# Altium footprint library con-vg.PCBLIB: 112 footprints (part 5 of 7)
Each footprint in its own frame and in the unit in brackets; x right, y up, seen from the top. Pads: shape width x height; smd on the part's side, far side on the other; paste and mask are expansions set on the pad; w line width, h text height; cw(c..) or ccw(c..) is an arc to the next point about the centre after c.
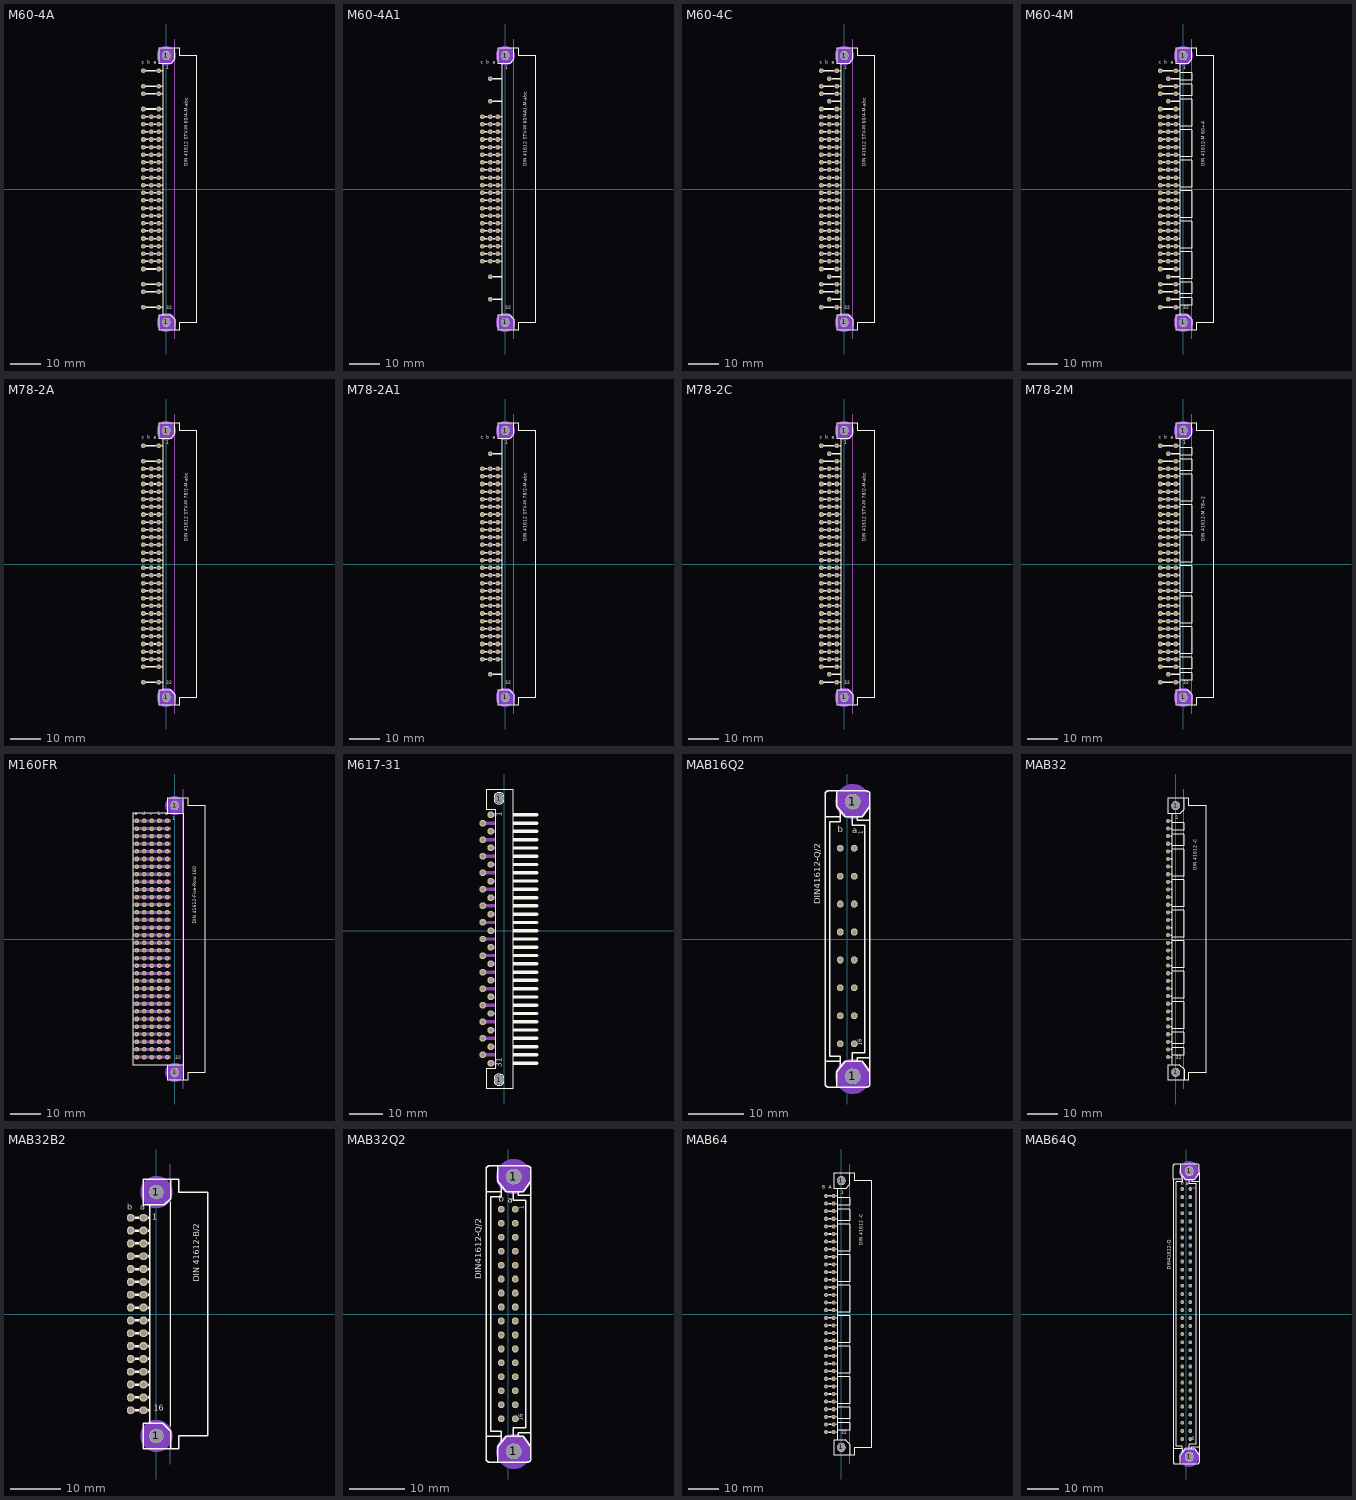
[diagram p4: the footprints below, top view; thin cyan lines are the x and y axes]

## M60-4A [mil]
pads (78):
  round 110 hole 110: 1(0,-1750) 1(0,1750)
  oct 60x60 hole 40: A1(-100,1550) A3(-100,1350) A4(-100,1250) A6(-100,1050) A7(-100,950) A8(-100,850) A9(-100,750) A10(-100,650) A11(-100,550) A12(-100,450) A13(-100,350) A14(-100,250) A15(-100,150) A16(-100,50) A17(-100,-50) A18(-100,-150) A19(-100,-250) A20(-100,-350) A21(-100,-450) A22(-100,-550) A23(-100,-650) A24(-100,-750) A25(-100,-850) A26(-100,-950) A27(-100,-1050) A29(-100,-1250) A30(-100,-1350) A32(-100,-1550) B7(-200,950) B8(-200,850) B9(-200,750) B10(-200,650) B11(-200,550) B12(-200,450) B13(-200,350) B14(-200,250) B15(-200,150) B16(-200,50) B17(-200,-50) B18(-200,-150) B19(-200,-250) B20(-200,-350) B21(-200,-450) B22(-200,-550) B23(-200,-650) B24(-200,-750) B25(-200,-850) B26(-200,-950) C1(-300,1550) C3(-300,1350) C4(-300,1250) C6(-300,1050) C7(-300,950) C8(-300,850) C9(-300,750) C10(-300,650) C11(-300,550) C12(-300,450) C13(-300,350) C14(-300,250) C15(-300,150) C16(-300,50) C17(-300,-50) C18(-300,-150) C19(-300,-250) C20(-300,-350) C21(-300,-450) C22(-300,-550) C23(-300,-650) C24(-300,-750) C25(-300,-850) C26(-300,-950) C27(-300,-1050) C29(-300,-1250) C30(-300,-1350) C32(-300,-1550)
Bottom Layer keep-out:
  circle w70: c0,1750 r90
  circle w70: c0,-1750 r90
Top Overlay:
  circle w10: c0,1750 r50
  circle w10: c0,-1750 r50
  rectangle: -65,1540 -50,1560
  rectangle: -65,1340 -50,1360
  rectangle: -65,1240 -50,1260
  rectangle: -65,1040 -50,1060
  rectangle: -65,940 -50,960
  rectangle: -65,840 -50,860
  rectangle: -65,740 -50,760
  rectangle: -65,640 -50,660
  rectangle: -65,540 -50,560
  rectangle: -65,440 -50,460
  rectangle: -65,340 -50,360
  rectangle: -65,240 -50,260
  rectangle: -65,140 -50,160
  rectangle: -65,40 -50,60
  rectangle: -65,-60 -50,-40
  rectangle: -65,-160 -50,-140
  rectangle: -65,-260 -50,-240
  rectangle: -65,-360 -50,-340
  rectangle: -65,-460 -50,-440
  rectangle: -65,-560 -50,-540
  rectangle: -65,-660 -50,-640
  rectangle: -65,-760 -50,-740
  rectangle: -65,-860 -50,-840
  rectangle: -65,-960 -50,-940
  rectangle: -65,-1060 -50,-1040
  rectangle: -65,-1260 -50,-1240
  rectangle: -65,-1360 -50,-1340
  rectangle: -65,-1560 -50,-1540
  rectangle: -235,1540 -165,1560
  rectangle: -165,1540 -135,1560
  rectangle: -265,1540 -235,1560
  rectangle: -165,1340 -135,1360
  rectangle: -235,1340 -165,1360
  rectangle: -265,1340 -235,1360
  rectangle: -165,940 -135,960
  rectangle: -265,940 -235,960
  rectangle: -265,840 -235,860
  rectangle: -165,840 -135,860
  rectangle: -165,740 -135,760
  rectangle: -265,740 -235,760
  rectangle: -265,640 -235,660
  rectangle: -165,640 -135,660
  rectangle: -165,540 -135,560
  rectangle: -265,540 -235,560
  rectangle: -265,440 -235,460
  rectangle: -165,440 -135,460
  rectangle: -165,340 -135,360
  rectangle: -265,340 -235,360
  rectangle: -265,240 -235,260
  rectangle: -165,240 -135,260
  rectangle: -165,140 -135,160
  rectangle: -265,140 -235,160
  rectangle: -265,40 -235,60
  rectangle: -165,40 -135,60
  rectangle: -165,-60 -135,-40
  rectangle: -265,-60 -235,-40
  rectangle: -265,-160 -235,-140
  rectangle: -165,-160 -135,-140
  rectangle: -165,-260 -135,-240
  rectangle: -265,-260 -235,-240
  rectangle: -265,-360 -235,-340
  rectangle: -165,-360 -135,-340
  rectangle: -165,-460 -135,-440
  rectangle: -265,-460 -235,-440
  rectangle: -265,-560 -235,-540
  rectangle: -165,-560 -135,-540
  rectangle: -165,-660 -135,-640
  rectangle: -265,-660 -235,-640
  rectangle: -265,-760 -235,-740
  rectangle: -165,-760 -135,-740
  rectangle: -165,-860 -135,-840
  rectangle: -265,-860 -235,-840
  rectangle: -265,-960 -235,-940
  rectangle: -165,-960 -135,-940
  rectangle: -165,-1060 -135,-1040
  rectangle: -265,-1060 -235,-1040
  rectangle: -165,-1260 -135,-1240
  rectangle: -265,-1260 -235,-1240
  rectangle: -265,-1360 -235,-1340
  rectangle: -235,-1360 -165,-1340
  rectangle: -165,-1360 -135,-1340
  rectangle: -265,-1560 -235,-1540
  rectangle: -235,-1560 -165,-1540
  rectangle: -165,-1560 -135,-1540
  rectangle: -235,1240 -165,1260
  rectangle: -265,1240 -235,1260
  rectangle: -165,1240 -135,1260
  rectangle: -265,1040 -235,1060
  rectangle: -235,1040 -165,1060
  rectangle: -165,1040 -135,1060
  rectangle: -235,-1260 -165,-1240
  rectangle: -235,-1060 -165,-1040
  lines w10: -50,-1650 -100,-1650 -100,-1850 113,-1850 ; -50,-1650 50,-1650 113,-1713 113,-1850 ; -50,-1650 -50,1650 ; -50,1650 -100,1650 -100,1850 113,1850 ; -50,1650 63,1650 113,1700 113,1850 ; 113,-1850 175,-1850 175,-1750 400,-1750 400,1750 175,1750 175,1850 113,1850
  text "1" at 0,1550 h77.5
  text "32" at 0,-1600 h77.5
  text "c" at -325,1625 h77.5
  text "b" at -250,1625 h77.5
  text "a" at -165,1625 h77.5
  text "DIN 41612 STV-M 60/4-M-abc" at 300,300 h77.5
Mechanical 1:
  lines w0: 110,-1969 110,1969
Mechanical 16:
  rectangle: -135,1540 -65,1560
  rectangle: -310,1540 -265,1560
  rectangle: -310,1340 -265,1360
  rectangle: -135,1340 -65,1360
  rectangle: -135,1240 -65,1260
  rectangle: -310,1240 -265,1260
  rectangle: -135,1040 -65,1060
  rectangle: -310,1040 -265,1060
  rectangle: -310,940 -265,960
  rectangle: -135,940 -65,960
  rectangle: -135,840 -65,860
  rectangle: -310,840 -265,860
  rectangle: -135,740 -65,760
  rectangle: -310,740 -265,760
  rectangle: -135,640 -65,660
  rectangle: -310,640 -265,660
  rectangle: -310,540 -265,560
  rectangle: -135,540 -65,560
  rectangle: -135,440 -65,460
  rectangle: -135,340 -65,360
  rectangle: -310,440 -265,460
  rectangle: -310,340 -265,360
  rectangle: -310,240 -265,260
  rectangle: -135,240 -65,260
  rectangle: -135,140 -65,160
  rectangle: -310,140 -265,160
  rectangle: -310,40 -265,60
  rectangle: -135,40 -65,60
  rectangle: -135,-60 -65,-40
  rectangle: -310,-60 -265,-40
  rectangle: -135,-160 -65,-140
  rectangle: -310,-160 -265,-140
  rectangle: -135,-260 -65,-240
  rectangle: -310,-260 -265,-240
  rectangle: -310,-360 -265,-340
  rectangle: -135,-360 -65,-340
  rectangle: -135,-460 -65,-440
  rectangle: -310,-460 -265,-440
  rectangle: -135,-660 -65,-640
  rectangle: -310,-660 -265,-640
  rectangle: -135,-560 -65,-540
  rectangle: -310,-560 -265,-540
  rectangle: -135,-760 -65,-740
  rectangle: -310,-760 -265,-740
  rectangle: -310,-860 -265,-840
  rectangle: -135,-860 -65,-840
  rectangle: -135,-960 -65,-940
  rectangle: -310,-960 -265,-940
  rectangle: -135,-1060 -65,-1040
  rectangle: -310,-1060 -265,-1040
  rectangle: -310,-1260 -265,-1240
  rectangle: -135,-1260 -65,-1240
  rectangle: -135,-1360 -65,-1340
  rectangle: -310,-1360 -265,-1340
  rectangle: -135,-1560 -65,-1540
  rectangle: -310,-1560 -265,-1540
  rectangle: -235,940 -165,960
  rectangle: -235,840 -165,860
  rectangle: -235,740 -165,760
  rectangle: -235,640 -165,660
  rectangle: -235,540 -165,560
  rectangle: -235,440 -165,460
  rectangle: -235,340 -165,360
  rectangle: -235,240 -165,260
  rectangle: -235,140 -165,160
  rectangle: -235,40 -165,60
  rectangle: -235,-60 -165,-40
  rectangle: -235,-160 -165,-140
  rectangle: -235,-260 -165,-240
  rectangle: -235,-360 -165,-340
  rectangle: -235,-460 -165,-440
  rectangle: -235,-560 -165,-540
  rectangle: -235,-660 -165,-640
  rectangle: -235,-760 -165,-740
  rectangle: -235,-860 -165,-840
  rectangle: -235,-960 -165,-940
Via Holes:
  circle w70: c0,1750 r90
  circle w70: c0,-1750 r90

## M60-4A1 [mil]
pads (66):
  round 110 hole 110: 1(0,-1750) 1(0,1750)
  oct 60x60 hole 40: A7(-100,950) A8(-100,850) A9(-100,750) A10(-100,650) A11(-100,550) A12(-100,450) A13(-100,350) A14(-100,250) A15(-100,150) A16(-100,50) A17(-100,-50) A18(-100,-150) A19(-100,-250) A20(-100,-350) A21(-100,-450) A22(-100,-550) A23(-100,-650) A24(-100,-750) A25(-100,-850) A26(-100,-950) B2(-200,1450) B5(-200,1150) B7(-200,950) B8(-200,850) B9(-200,750) B10(-200,650) B11(-200,550) B12(-200,450) B13(-200,350) B14(-200,250) B15(-200,150) B16(-200,50) B17(-200,-50) B18(-200,-150) B19(-200,-250) B20(-200,-350) B21(-200,-450) B22(-200,-550) B23(-200,-650) B24(-200,-750) B25(-200,-850) B26(-200,-950) B28(-200,-1150) B31(-200,-1450) C7(-300,950) C8(-300,850) C9(-300,750) C10(-300,650) C11(-300,550) C12(-300,450) C13(-300,350) C14(-300,250) C15(-300,150) C16(-300,50) C17(-300,-50) C18(-300,-150) C19(-300,-250) C20(-300,-350) C21(-300,-450) C22(-300,-550) C23(-300,-650) C24(-300,-750) C25(-300,-850) C26(-300,-950)
Bottom Layer keep-out:
  circle w70: c0,1750 r90
  circle w70: c0,-1750 r90
Top Overlay:
  circle w10: c0,1750 r50
  circle w10: c0,-1750 r50
  rectangle: -65,1440 -50,1460
  rectangle: -135,1440 -65,1460
  rectangle: -65,1140 -50,1160
  rectangle: -65,940 -50,960
  rectangle: -65,840 -50,860
  rectangle: -65,740 -50,760
  rectangle: -65,640 -50,660
  rectangle: -65,540 -50,560
  rectangle: -65,440 -50,460
  rectangle: -65,340 -50,360
  rectangle: -65,240 -50,260
  rectangle: -65,140 -50,160
  rectangle: -65,40 -50,60
  rectangle: -65,-60 -50,-40
  rectangle: -65,-160 -50,-140
  rectangle: -65,-260 -50,-240
  rectangle: -65,-360 -50,-340
  rectangle: -65,-460 -50,-440
  rectangle: -65,-560 -50,-540
  rectangle: -65,-660 -50,-640
  rectangle: -65,-760 -50,-740
  rectangle: -65,-860 -50,-840
  rectangle: -65,-960 -50,-940
  rectangle: -65,-1160 -50,-1140
  rectangle: -135,-1460 -65,-1440
  rectangle: -65,-1460 -50,-1440
  rectangle: -165,1440 -135,1460
  rectangle: -165,1140 -135,1160
  rectangle: -165,940 -135,960
  rectangle: -265,940 -235,960
  rectangle: -265,840 -235,860
  rectangle: -165,840 -135,860
  rectangle: -165,740 -135,760
  rectangle: -265,740 -235,760
  rectangle: -265,640 -235,660
  rectangle: -165,640 -135,660
  rectangle: -165,540 -135,560
  rectangle: -265,540 -235,560
  rectangle: -265,440 -235,460
  rectangle: -165,440 -135,460
  rectangle: -165,340 -135,360
  rectangle: -265,340 -235,360
  rectangle: -265,240 -235,260
  rectangle: -165,240 -135,260
  rectangle: -165,140 -135,160
  rectangle: -265,140 -235,160
  rectangle: -265,40 -235,60
  rectangle: -165,40 -135,60
  rectangle: -165,-60 -135,-40
  rectangle: -265,-60 -235,-40
  rectangle: -265,-160 -235,-140
  rectangle: -165,-160 -135,-140
  rectangle: -165,-260 -135,-240
  rectangle: -265,-260 -235,-240
  rectangle: -265,-360 -235,-340
  rectangle: -165,-360 -135,-340
  rectangle: -165,-460 -135,-440
  rectangle: -265,-460 -235,-440
  rectangle: -265,-560 -235,-540
  rectangle: -165,-560 -135,-540
  rectangle: -165,-660 -135,-640
  rectangle: -265,-660 -235,-640
  rectangle: -265,-760 -235,-740
  rectangle: -165,-760 -135,-740
  rectangle: -165,-860 -135,-840
  rectangle: -265,-860 -235,-840
  rectangle: -265,-960 -235,-940
  rectangle: -165,-960 -135,-940
  rectangle: -165,-1160 -135,-1140
  rectangle: -165,-1460 -135,-1440
  rectangle: -135,-1160 -65,-1140
  rectangle: -135,1140 -65,1160
  lines w10: -50,-1650 -100,-1650 -100,-1850 113,-1850 ; -50,-1650 50,-1650 113,-1713 113,-1850 ; -50,-1650 -50,1650 ; -50,1650 -100,1650 -100,1850 113,1850 ; -50,1650 63,1650 113,1700 113,1850 ; 113,-1850 175,-1850 175,-1750 400,-1750 400,1750 175,1750 175,1850 113,1850
  text "1" at 0,1550 h77.5
  text "32" at 0,-1600 h77.5
  text "c" at -325,1625 h77.5
  text "b" at -250,1625 h77.5
  text "a" at -165,1625 h77.5
  text "DIN 41612 STV-M 60/4A1-M-abc" at 300,300 h77.5
Mechanical 1:
  lines w0: 110,-1969 110,1969
Mechanical 16:
  rectangle: -310,940 -265,960
  rectangle: -135,940 -65,960
  rectangle: -135,840 -65,860
  rectangle: -310,840 -265,860
  rectangle: -135,740 -65,760
  rectangle: -310,740 -265,760
  rectangle: -135,640 -65,660
  rectangle: -310,640 -265,660
  rectangle: -310,540 -265,560
  rectangle: -135,540 -65,560
  rectangle: -135,440 -65,460
  rectangle: -135,340 -65,360
  rectangle: -310,440 -265,460
  rectangle: -310,340 -265,360
  rectangle: -310,240 -265,260
  rectangle: -135,240 -65,260
  rectangle: -135,140 -65,160
  rectangle: -310,140 -265,160
  rectangle: -310,40 -265,60
  rectangle: -135,40 -65,60
  rectangle: -135,-60 -65,-40
  rectangle: -310,-60 -265,-40
  rectangle: -135,-160 -65,-140
  rectangle: -310,-160 -265,-140
  rectangle: -135,-260 -65,-240
  rectangle: -310,-260 -265,-240
  rectangle: -310,-360 -265,-340
  rectangle: -135,-360 -65,-340
  rectangle: -135,-460 -65,-440
  rectangle: -310,-460 -265,-440
  rectangle: -135,-660 -65,-640
  rectangle: -310,-660 -265,-640
  rectangle: -135,-560 -65,-540
  rectangle: -310,-560 -265,-540
  rectangle: -135,-760 -65,-740
  rectangle: -310,-760 -265,-740
  rectangle: -310,-860 -265,-840
  rectangle: -135,-860 -65,-840
  rectangle: -135,-960 -65,-940
  rectangle: -310,-960 -265,-940
  rectangle: -235,940 -165,960
  rectangle: -235,840 -165,860
  rectangle: -235,740 -165,760
  rectangle: -235,640 -165,660
  rectangle: -235,540 -165,560
  rectangle: -235,440 -165,460
  rectangle: -235,340 -165,360
  rectangle: -235,240 -165,260
  rectangle: -235,140 -165,160
  rectangle: -235,40 -165,60
  rectangle: -235,-60 -165,-40
  rectangle: -235,-160 -165,-140
  rectangle: -235,-260 -165,-240
  rectangle: -235,-360 -165,-340
  rectangle: -235,-460 -165,-440
  rectangle: -235,-560 -165,-540
  rectangle: -235,-660 -165,-640
  rectangle: -235,-760 -165,-740
  rectangle: -235,-860 -165,-840
  rectangle: -235,-960 -165,-940
  rectangle: -210,1140 -165,1160
  rectangle: -210,1440 -165,1460
  rectangle: -210,-1160 -165,-1140
  rectangle: -210,-1460 -165,-1440
Via Holes:
  circle w70: c0,1750 r90
  circle w70: c0,-1750 r90

## M60-4C [mil]
pads (82):
  round 110 hole 110: 1(0,-1750) 1(0,1750)
  oct 60x60 hole 40: A1(-100,1550) A3(-100,1350) A4(-100,1250) A6(-100,1050) A7(-100,950) A8(-100,850) A9(-100,750) A10(-100,650) A11(-100,550) A12(-100,450) A13(-100,350) A14(-100,250) A15(-100,150) A16(-100,50) A17(-100,-50) A18(-100,-150) A19(-100,-250) A20(-100,-350) A21(-100,-450) A22(-100,-550) A23(-100,-650) A24(-100,-750) A25(-100,-850) A26(-100,-950) A27(-100,-1050) A29(-100,-1250) A30(-100,-1350) A32(-100,-1550) B2(-200,1450) B5(-200,1150) B7(-200,950) B8(-200,850) B9(-200,750) B10(-200,650) B11(-200,550) B12(-200,450) B13(-200,350) B14(-200,250) B15(-200,150) B16(-200,50) B17(-200,-50) B18(-200,-150) B19(-200,-250) B20(-200,-350) B21(-200,-450) B22(-200,-550) B23(-200,-650) B24(-200,-750) B25(-200,-850) B26(-200,-950) B28(-200,-1150) B31(-200,-1450) C1(-300,1550) C3(-300,1350) C4(-300,1250) C6(-300,1050) C7(-300,950) C8(-300,850) C9(-300,750) C10(-300,650) C11(-300,550) C12(-300,450) C13(-300,350) C14(-300,250) C15(-300,150) C16(-300,50) C17(-300,-50) C18(-300,-150) C19(-300,-250) C20(-300,-350) C21(-300,-450) C22(-300,-550) C23(-300,-650) C24(-300,-750) C25(-300,-850) C26(-300,-950) C27(-300,-1050) C29(-300,-1250) C30(-300,-1350) C32(-300,-1550)
Bottom Layer keep-out:
  circle w70: c0,1750 r90
  circle w70: c0,-1750 r90
Top Overlay:
  circle w10: c0,1750 r50
  circle w10: c0,-1750 r50
  rectangle: -65,1540 -50,1560
  rectangle: -65,1440 -50,1460
  rectangle: -135,1440 -65,1460
  rectangle: -65,1340 -50,1360
  rectangle: -65,1240 -50,1260
  rectangle: -65,1140 -50,1160
  rectangle: -65,1040 -50,1060
  rectangle: -65,940 -50,960
  rectangle: -65,840 -50,860
  rectangle: -65,740 -50,760
  rectangle: -65,640 -50,660
  rectangle: -65,540 -50,560
  rectangle: -65,440 -50,460
  rectangle: -65,340 -50,360
  rectangle: -65,240 -50,260
  rectangle: -65,140 -50,160
  rectangle: -65,40 -50,60
  rectangle: -65,-60 -50,-40
  rectangle: -65,-160 -50,-140
  rectangle: -65,-260 -50,-240
  rectangle: -65,-360 -50,-340
  rectangle: -65,-460 -50,-440
  rectangle: -65,-560 -50,-540
  rectangle: -65,-660 -50,-640
  rectangle: -65,-760 -50,-740
  rectangle: -65,-860 -50,-840
  rectangle: -65,-960 -50,-940
  rectangle: -65,-1060 -50,-1040
  rectangle: -65,-1160 -50,-1140
  rectangle: -65,-1260 -50,-1240
  rectangle: -65,-1360 -50,-1340
  rectangle: -135,-1460 -65,-1440
  rectangle: -65,-1460 -50,-1440
  rectangle: -65,-1560 -50,-1540
  rectangle: -235,1540 -165,1560
  rectangle: -165,1540 -135,1560
  rectangle: -265,1540 -235,1560
  rectangle: -165,1440 -135,1460
  rectangle: -165,1340 -135,1360
  rectangle: -235,1340 -165,1360
  rectangle: -265,1340 -235,1360
  rectangle: -165,1140 -135,1160
  rectangle: -165,940 -135,960
  rectangle: -265,940 -235,960
  rectangle: -265,840 -235,860
  rectangle: -165,840 -135,860
  rectangle: -165,740 -135,760
  rectangle: -265,740 -235,760
  rectangle: -265,640 -235,660
  rectangle: -165,640 -135,660
  rectangle: -165,540 -135,560
  rectangle: -265,540 -235,560
  rectangle: -265,440 -235,460
  rectangle: -165,440 -135,460
  rectangle: -165,340 -135,360
  rectangle: -265,340 -235,360
  rectangle: -265,240 -235,260
  rectangle: -165,240 -135,260
  rectangle: -165,140 -135,160
  rectangle: -265,140 -235,160
  rectangle: -265,40 -235,60
  rectangle: -165,40 -135,60
  rectangle: -165,-60 -135,-40
  rectangle: -265,-60 -235,-40
  rectangle: -265,-160 -235,-140
  rectangle: -165,-160 -135,-140
  rectangle: -165,-260 -135,-240
  rectangle: -265,-260 -235,-240
  rectangle: -265,-360 -235,-340
  rectangle: -165,-360 -135,-340
  rectangle: -165,-460 -135,-440
  rectangle: -265,-460 -235,-440
  rectangle: -265,-560 -235,-540
  rectangle: -165,-560 -135,-540
  rectangle: -165,-660 -135,-640
  rectangle: -265,-660 -235,-640
  rectangle: -265,-760 -235,-740
  rectangle: -165,-760 -135,-740
  rectangle: -165,-860 -135,-840
  rectangle: -265,-860 -235,-840
  rectangle: -265,-960 -235,-940
  rectangle: -165,-960 -135,-940
  rectangle: -165,-1060 -135,-1040
  rectangle: -265,-1060 -235,-1040
  rectangle: -165,-1160 -135,-1140
  rectangle: -165,-1260 -135,-1240
  rectangle: -265,-1260 -235,-1240
  rectangle: -265,-1360 -235,-1340
  rectangle: -235,-1360 -165,-1340
  rectangle: -165,-1360 -135,-1340
  rectangle: -165,-1460 -135,-1440
  rectangle: -265,-1560 -235,-1540
  rectangle: -235,-1560 -165,-1540
  rectangle: -165,-1560 -135,-1540
  rectangle: -235,1240 -165,1260
  rectangle: -265,1240 -235,1260
  rectangle: -165,1240 -135,1260
  rectangle: -265,1040 -235,1060
  rectangle: -235,1040 -165,1060
  rectangle: -165,1040 -135,1060
  rectangle: -235,-1260 -165,-1240
  rectangle: -235,-1060 -165,-1040
  rectangle: -135,-1160 -65,-1140
  rectangle: -135,1140 -65,1160
  lines w10: -50,-1650 -100,-1650 -100,-1850 113,-1850 ; -50,-1650 50,-1650 113,-1713 113,-1850 ; -50,-1650 -50,1650 ; -50,1650 -100,1650 -100,1850 113,1850 ; -50,1650 63,1650 113,1700 113,1850 ; 113,-1850 175,-1850 175,-1750 400,-1750 400,1750 175,1750 175,1850 113,1850
  text "1" at 0,1550 h77.5
  text "32" at 0,-1600 h77.5
  text "c" at -325,1625 h77.5
  text "b" at -250,1625 h77.5
  text "a" at -165,1625 h77.5
  text "DIN 41612 STV-M 60/4-M-abc" at 300,300 h77.5
Mechanical 1:
  lines w0: 110,-1969 110,1969
Mechanical 16:
  rectangle: -135,1540 -65,1560
  rectangle: -310,1540 -265,1560
  rectangle: -310,1340 -265,1360
  rectangle: -135,1340 -65,1360
  rectangle: -135,1240 -65,1260
  rectangle: -310,1240 -265,1260
  rectangle: -135,1040 -65,1060
  rectangle: -310,1040 -265,1060
  rectangle: -310,940 -265,960
  rectangle: -135,940 -65,960
  rectangle: -135,840 -65,860
  rectangle: -310,840 -265,860
  rectangle: -135,740 -65,760
  rectangle: -310,740 -265,760
  rectangle: -135,640 -65,660
  rectangle: -310,640 -265,660
  rectangle: -310,540 -265,560
  rectangle: -135,540 -65,560
  rectangle: -135,440 -65,460
  rectangle: -135,340 -65,360
  rectangle: -310,440 -265,460
  rectangle: -310,340 -265,360
  rectangle: -310,240 -265,260
  rectangle: -135,240 -65,260
  rectangle: -135,140 -65,160
  rectangle: -310,140 -265,160
  rectangle: -310,40 -265,60
  rectangle: -135,40 -65,60
  rectangle: -135,-60 -65,-40
  rectangle: -310,-60 -265,-40
  rectangle: -135,-160 -65,-140
  rectangle: -310,-160 -265,-140
  rectangle: -135,-260 -65,-240
  rectangle: -310,-260 -265,-240
  rectangle: -310,-360 -265,-340
  rectangle: -135,-360 -65,-340
  rectangle: -135,-460 -65,-440
  rectangle: -310,-460 -265,-440
  rectangle: -135,-660 -65,-640
  rectangle: -310,-660 -265,-640
  rectangle: -135,-560 -65,-540
  rectangle: -310,-560 -265,-540
  rectangle: -135,-760 -65,-740
  rectangle: -310,-760 -265,-740
  rectangle: -310,-860 -265,-840
  rectangle: -135,-860 -65,-840
  rectangle: -135,-960 -65,-940
  rectangle: -310,-960 -265,-940
  rectangle: -135,-1060 -65,-1040
  rectangle: -310,-1060 -265,-1040
  rectangle: -310,-1260 -265,-1240
  rectangle: -135,-1260 -65,-1240
  rectangle: -135,-1360 -65,-1340
  rectangle: -310,-1360 -265,-1340
  rectangle: -135,-1560 -65,-1540
  rectangle: -310,-1560 -265,-1540
  rectangle: -235,940 -165,960
  rectangle: -235,840 -165,860
  rectangle: -235,740 -165,760
  rectangle: -235,640 -165,660
  rectangle: -235,540 -165,560
  rectangle: -235,440 -165,460
  rectangle: -235,340 -165,360
  rectangle: -235,240 -165,260
  rectangle: -235,140 -165,160
  rectangle: -235,40 -165,60
  rectangle: -235,-60 -165,-40
  rectangle: -235,-160 -165,-140
  rectangle: -235,-260 -165,-240
  rectangle: -235,-360 -165,-340
  rectangle: -235,-460 -165,-440
  rectangle: -235,-560 -165,-540
  rectangle: -235,-660 -165,-640
  rectangle: -235,-760 -165,-740
  rectangle: -235,-860 -165,-840
  rectangle: -235,-960 -165,-940
  rectangle: -210,1140 -165,1160
  rectangle: -210,1440 -165,1460
  rectangle: -210,-1160 -165,-1140
  rectangle: -210,-1460 -165,-1440
Via Holes:
  circle w70: c0,1750 r90
  circle w70: c0,-1750 r90

## M60-4M [mil]
pads (82):
  round 110 hole 110: 1(0,-1750) 1(0,1750)
  oct 60x60 hole 40: A1(-100,1550) A3(-100,1350) A4(-100,1250) A6(-100,1050) A7(-100,950) A8(-100,850) A9(-100,750) A10(-100,650) A11(-100,550) A12(-100,450) A13(-100,350) A14(-100,250) A15(-100,150) A16(-100,50) A17(-100,-50) A18(-100,-150) A19(-100,-250) A20(-100,-350) A21(-100,-450) A22(-100,-550) A23(-100,-650) A24(-100,-750) A25(-100,-850) A26(-100,-950) A27(-100,-1050) A29(-100,-1250) A30(-100,-1350) A32(-100,-1550) B2(-200,1450) B5(-200,1150) B7(-200,950) B8(-200,850) B9(-200,750) B10(-200,650) B11(-200,550) B12(-200,450) B13(-200,350) B14(-200,250) B15(-200,150) B16(-200,50) B17(-200,-50) B18(-200,-150) B19(-200,-250) B20(-200,-350) B21(-200,-450) B22(-200,-550) B23(-200,-650) B24(-200,-750) B25(-200,-850) B26(-200,-950) B28(-200,-1150) B31(-200,-1450) C1(-300,1550) C3(-300,1350) C4(-300,1250) C6(-300,1050) C7(-300,950) C8(-300,850) C9(-300,750) C10(-300,650) C11(-300,550) C12(-300,450) C13(-300,350) C14(-300,250) C15(-300,150) C16(-300,50) C17(-300,-50) C18(-300,-150) C19(-300,-250) C20(-300,-350) C21(-300,-450) C22(-300,-550) C23(-300,-650) C24(-300,-750) C25(-300,-850) C26(-300,-950) C27(-300,-1050) C29(-300,-1250) C30(-300,-1350) C32(-300,-1550)
Bottom Layer keep-out:
  circle w70: c0,1750 r90
  circle w70: c0,-1750 r90
Top Overlay:
  drawing of 176 lines, arcs and shapes, not listed
  text "1" at 0,1550 h77.5
  text "32" at 0,-1600 h77.5
  text "DIN 41612-M 60+4" at 300,300 h77.5
  text "c" at -325,1625 h77.5
  text "b" at -250,1625 h77.5
  text "a" at -165,1625 h77.5
Mechanical 1:
  lines w0: 110,-1969 110,1969
Mechanical 16:
  rectangle: -135,1540 -65,1560
  rectangle: -310,1540 -265,1560
  rectangle: -310,1340 -265,1360
  rectangle: -135,1340 -65,1360
  rectangle: -135,1240 -65,1260
  rectangle: -310,1240 -265,1260
  rectangle: -135,1040 -65,1060
  rectangle: -310,1040 -265,1060
  rectangle: -310,940 -265,960
  rectangle: -135,940 -65,960
  rectangle: -135,840 -65,860
  rectangle: -310,840 -265,860
  rectangle: -135,740 -65,760
  rectangle: -310,740 -265,760
  rectangle: -135,640 -65,660
  rectangle: -310,640 -265,660
  rectangle: -310,540 -265,560
  rectangle: -135,540 -65,560
  rectangle: -135,440 -65,460
  rectangle: -135,340 -65,360
  rectangle: -310,440 -265,460
  rectangle: -310,340 -265,360
  rectangle: -310,240 -265,260
  rectangle: -135,240 -65,260
  rectangle: -135,140 -65,160
  rectangle: -310,140 -265,160
  rectangle: -310,40 -265,60
  rectangle: -135,40 -65,60
  rectangle: -135,-60 -65,-40
  rectangle: -310,-60 -265,-40
  rectangle: -135,-160 -65,-140
  rectangle: -310,-160 -265,-140
  rectangle: -135,-260 -65,-240
  rectangle: -310,-260 -265,-240
  rectangle: -310,-360 -265,-340
  rectangle: -135,-360 -65,-340
  rectangle: -135,-460 -65,-440
  rectangle: -310,-460 -265,-440
  rectangle: -135,-660 -65,-640
  rectangle: -310,-660 -265,-640
  rectangle: -135,-560 -65,-540
  rectangle: -310,-560 -265,-540
  rectangle: -135,-760 -65,-740
  rectangle: -310,-760 -265,-740
  rectangle: -310,-860 -265,-840
  rectangle: -135,-860 -65,-840
  rectangle: -135,-960 -65,-940
  rectangle: -310,-960 -265,-940
  rectangle: -135,-1060 -65,-1040
  rectangle: -310,-1060 -265,-1040
  rectangle: -310,-1260 -265,-1240
  rectangle: -135,-1260 -65,-1240
  rectangle: -135,-1360 -65,-1340
  rectangle: -310,-1360 -265,-1340
  rectangle: -135,-1560 -65,-1540
  rectangle: -310,-1560 -265,-1540
  rectangle: -235,940 -165,960
  rectangle: -235,840 -165,860
  rectangle: -235,740 -165,760
  rectangle: -235,640 -165,660
  rectangle: -235,540 -165,560
  rectangle: -235,440 -165,460
  rectangle: -235,340 -165,360
  rectangle: -235,240 -165,260
  rectangle: -235,140 -165,160
  rectangle: -235,40 -165,60
  rectangle: -235,-60 -165,-40
  rectangle: -235,-160 -165,-140
  rectangle: -235,-260 -165,-240
  rectangle: -235,-360 -165,-340
  rectangle: -235,-460 -165,-440
  rectangle: -235,-560 -165,-540
  rectangle: -235,-660 -165,-640
  rectangle: -235,-760 -165,-740
  rectangle: -235,-860 -165,-840
  rectangle: -235,-960 -165,-940
  rectangle: -210,1140 -165,1160
  rectangle: -210,1440 -165,1460
  rectangle: -210,-1160 -165,-1140
  rectangle: -210,-1460 -165,-1440
Via Holes:
  circle w70: c0,1750 r90
  circle w70: c0,-1750 r90

## M78-2A [mil]
pads (88):
  round 110 hole 110: 1(0,-1750) 1(0,1750)
  oct 60x60 hole 40: A1(-100,1550) A3(-100,1350) A4(-100,1250) A5(-100,1150) A6(-100,1050) A7(-100,950) A8(-100,850) A9(-100,750) A10(-100,650) A11(-100,550) A12(-100,450) A13(-100,350) A14(-100,250) A15(-100,150) A16(-100,50) A17(-100,-50) A18(-100,-150) A19(-100,-250) A20(-100,-350) A21(-100,-450) A22(-100,-550) A23(-100,-650) A24(-100,-750) A25(-100,-850) A26(-100,-950) A27(-100,-1050) A28(-100,-1150) A29(-100,-1250) A30(-100,-1350) A32(-100,-1550) B4(-200,1250) B5(-200,1150) B6(-200,1050) B7(-200,950) B8(-200,850) B9(-200,750) B10(-200,650) B11(-200,550) B12(-200,450) B13(-200,350) B14(-200,250) B15(-200,150) B16(-200,50) B17(-200,-50) B18(-200,-150) B19(-200,-250) B20(-200,-350) B21(-200,-450) B22(-200,-550) B23(-200,-650) B24(-200,-750) B25(-200,-850) B26(-200,-950) B27(-200,-1050) B28(-200,-1150) B29(-200,-1250) C1(-300,1550) C3(-300,1350) C4(-300,1250) C5(-300,1150) C6(-300,1050) C7(-300,950) C8(-300,850) C9(-300,750) C10(-300,650) C11(-300,550) C12(-300,450) C13(-300,350) C14(-300,250) C15(-300,150) C16(-300,50) C17(-300,-50) C18(-300,-150) C19(-300,-250) C20(-300,-350) C21(-300,-450) C22(-300,-550) C23(-300,-650) C24(-300,-750) C25(-300,-850) C26(-300,-950) C27(-300,-1050) C28(-300,-1150) C29(-300,-1250) C30(-300,-1350) C32(-300,-1550)
Bottom Layer keep-out:
  circle w70: c0,1750 r90
  circle w70: c0,-1750 r90
Top Overlay:
  circle w10: c0,1750 r50
  circle w10: c0,-1750 r50
  rectangle: -65,1540 -50,1560
  rectangle: -65,1340 -50,1360
  rectangle: -65,1240 -50,1260
  rectangle: -65,1140 -50,1160
  rectangle: -65,1040 -50,1060
  rectangle: -65,940 -50,960
  rectangle: -65,840 -50,860
  rectangle: -65,740 -50,760
  rectangle: -65,640 -50,660
  rectangle: -65,540 -50,560
  rectangle: -65,440 -50,460
  rectangle: -65,340 -50,360
  rectangle: -65,240 -50,260
  rectangle: -65,140 -50,160
  rectangle: -65,40 -50,60
  rectangle: -65,-60 -50,-40
  rectangle: -65,-160 -50,-140
  rectangle: -65,-260 -50,-240
  rectangle: -65,-360 -50,-340
  rectangle: -65,-460 -50,-440
  rectangle: -65,-560 -50,-540
  rectangle: -65,-660 -50,-640
  rectangle: -65,-760 -50,-740
  rectangle: -65,-860 -50,-840
  rectangle: -65,-960 -50,-940
  rectangle: -65,-1060 -50,-1040
  rectangle: -65,-1160 -50,-1140
  rectangle: -65,-1260 -50,-1240
  rectangle: -65,-1360 -50,-1340
  rectangle: -65,-1560 -50,-1540
  rectangle: -235,1540 -165,1560
  rectangle: -165,1540 -135,1560
  rectangle: -265,1540 -235,1560
  rectangle: -165,1340 -135,1360
  rectangle: -235,1340 -165,1360
  rectangle: -265,1340 -235,1360
  rectangle: -265,1240 -235,1260
  rectangle: -165,1240 -135,1260
  rectangle: -165,1140 -135,1160
  rectangle: -265,1140 -235,1160
  rectangle: -265,1040 -235,1060
  rectangle: -165,1040 -135,1060
  rectangle: -165,940 -135,960
  rectangle: -265,940 -235,960
  rectangle: -265,840 -235,860
  rectangle: -165,840 -135,860
  rectangle: -165,740 -135,760
  rectangle: -265,740 -235,760
  rectangle: -265,640 -235,660
  rectangle: -165,640 -135,660
  rectangle: -165,540 -135,560
  rectangle: -265,540 -235,560
  rectangle: -265,440 -235,460
  rectangle: -165,440 -135,460
  rectangle: -165,340 -135,360
  rectangle: -265,340 -235,360
  rectangle: -265,240 -235,260
  rectangle: -165,240 -135,260
  rectangle: -165,140 -135,160
  rectangle: -265,140 -235,160
  rectangle: -265,40 -235,60
  rectangle: -165,40 -135,60
  rectangle: -165,-60 -135,-40
  rectangle: -265,-60 -235,-40
  rectangle: -265,-160 -235,-140
  rectangle: -165,-160 -135,-140
  rectangle: -165,-260 -135,-240
  rectangle: -265,-260 -235,-240
  rectangle: -265,-360 -235,-340
  rectangle: -165,-360 -135,-340
  rectangle: -165,-460 -135,-440
  rectangle: -265,-460 -235,-440
  rectangle: -265,-560 -235,-540
  rectangle: -165,-560 -135,-540
  rectangle: -165,-660 -135,-640
  rectangle: -265,-660 -235,-640
  rectangle: -265,-760 -235,-740
  rectangle: -165,-760 -135,-740
  rectangle: -165,-860 -135,-840
  rectangle: -265,-860 -235,-840
  rectangle: -265,-960 -235,-940
  rectangle: -165,-960 -135,-940
  rectangle: -165,-1060 -135,-1040
  rectangle: -265,-1060 -235,-1040
  rectangle: -265,-1160 -235,-1140
  rectangle: -165,-1160 -135,-1140
  rectangle: -165,-1260 -135,-1240
  rectangle: -265,-1260 -235,-1240
  rectangle: -265,-1360 -235,-1340
  rectangle: -235,-1360 -165,-1340
  rectangle: -165,-1360 -135,-1340
  rectangle: -265,-1560 -235,-1540
  rectangle: -235,-1560 -165,-1540
  rectangle: -165,-1560 -135,-1540
  lines w10: -50,-1650 -100,-1650 -100,-1850 113,-1850 ; -50,-1650 50,-1650 113,-1713 113,-1850 ; -50,-1650 -50,1650 ; -50,1650 -100,1650 -100,1850 113,1850 ; -50,1650 63,1650 113,1700 113,1850 ; 113,-1850 175,-1850 175,-1750 400,-1750 400,1750 175,1750 175,1850 113,1850
  text "1" at 0,1550 h77.5
  text "32" at 0,-1600 h77.5
  text "c" at -325,1625 h77.5
  text "b" at -250,1625 h77.5
  text "a" at -165,1625 h77.5
  text "DIN 41612 STV-M 78/2-M-abc" at 300,300 h77.5
Mechanical 1:
  lines w0: 110,-1969 110,1969
Mechanical 16:
  rectangle: -135,1540 -65,1560
  rectangle: -310,1540 -265,1560
  rectangle: -310,1340 -265,1360
  rectangle: -135,1340 -65,1360
  rectangle: -135,1240 -65,1260
  rectangle: -310,1240 -265,1260
  rectangle: -135,1140 -65,1160
  rectangle: -135,1040 -65,1060
  rectangle: -310,1140 -265,1160
  rectangle: -310,1040 -265,1060
  rectangle: -310,940 -265,960
  rectangle: -135,940 -65,960
  rectangle: -135,840 -65,860
  rectangle: -310,840 -265,860
  rectangle: -135,740 -65,760
  rectangle: -310,740 -265,760
  rectangle: -135,640 -65,660
  rectangle: -310,640 -265,660
  rectangle: -310,540 -265,560
  rectangle: -135,540 -65,560
  rectangle: -135,440 -65,460
  rectangle: -135,340 -65,360
  rectangle: -310,440 -265,460
  rectangle: -310,340 -265,360
  rectangle: -310,240 -265,260
  rectangle: -135,240 -65,260
  rectangle: -135,140 -65,160
  rectangle: -310,140 -265,160
  rectangle: -310,40 -265,60
  rectangle: -135,40 -65,60
  rectangle: -135,-60 -65,-40
  rectangle: -310,-60 -265,-40
  rectangle: -135,-160 -65,-140
  rectangle: -310,-160 -265,-140
  rectangle: -135,-260 -65,-240
  rectangle: -310,-260 -265,-240
  rectangle: -310,-360 -265,-340
  rectangle: -135,-360 -65,-340
  rectangle: -135,-460 -65,-440
  rectangle: -310,-460 -265,-440
  rectangle: -135,-660 -65,-640
  rectangle: -310,-660 -265,-640
  rectangle: -135,-560 -65,-540
  rectangle: -310,-560 -265,-540
  rectangle: -135,-760 -65,-740
  rectangle: -310,-760 -265,-740
  rectangle: -310,-860 -265,-840
  rectangle: -135,-860 -65,-840
  rectangle: -135,-960 -65,-940
  rectangle: -310,-960 -265,-940
  rectangle: -135,-1060 -65,-1040
  rectangle: -310,-1060 -265,-1040
  rectangle: -135,-1160 -65,-1140
  rectangle: -310,-1160 -265,-1140
  rectangle: -310,-1260 -265,-1240
  rectangle: -135,-1260 -65,-1240
  rectangle: -135,-1360 -65,-1340
  rectangle: -310,-1360 -265,-1340
  rectangle: -135,-1560 -65,-1540
  rectangle: -310,-1560 -265,-1540
  rectangle: -235,1240 -165,1260
  rectangle: -235,1140 -165,1160
  rectangle: -235,1040 -165,1060
  rectangle: -235,940 -165,960
  rectangle: -235,840 -165,860
  rectangle: -235,740 -165,760
  rectangle: -235,640 -165,660
  rectangle: -235,540 -165,560
  rectangle: -235,440 -165,460
  rectangle: -235,340 -165,360
  rectangle: -235,240 -165,260
  rectangle: -235,140 -165,160
  rectangle: -235,40 -165,60
  rectangle: -235,-60 -165,-40
  rectangle: -235,-160 -165,-140
  rectangle: -235,-260 -165,-240
  rectangle: -235,-360 -165,-340
  rectangle: -235,-460 -165,-440
  rectangle: -235,-560 -165,-540
  rectangle: -235,-660 -165,-640
  rectangle: -235,-760 -165,-740
  rectangle: -235,-860 -165,-840
  rectangle: -235,-960 -165,-940
  rectangle: -235,-1060 -165,-1040
  rectangle: -235,-1160 -165,-1140
  rectangle: -235,-1260 -165,-1240
Via Holes:
  circle w70: c0,1750 r90
  circle w70: c0,-1750 r90

## M78-2A1 [mil]
pads (82):
  round 110 hole 110: 1(0,-1750) 1(0,1750)
  oct 60x60 hole 40: A4(-100,1250) A5(-100,1150) A6(-100,1050) A7(-100,950) A8(-100,850) A9(-100,750) A10(-100,650) A11(-100,550) A12(-100,450) A13(-100,350) A14(-100,250) A15(-100,150) A16(-100,50) A17(-100,-50) A18(-100,-150) A19(-100,-250) A20(-100,-350) A21(-100,-450) A22(-100,-550) A23(-100,-650) A24(-100,-750) A25(-100,-850) A26(-100,-950) A27(-100,-1050) A28(-100,-1150) A29(-100,-1250) B2(-200,1450) B4(-200,1250) B5(-200,1150) B6(-200,1050) B7(-200,950) B8(-200,850) B9(-200,750) B10(-200,650) B11(-200,550) B12(-200,450) B13(-200,350) B14(-200,250) B15(-200,150) B16(-200,50) B17(-200,-50) B18(-200,-150) B19(-200,-250) B20(-200,-350) B21(-200,-450) B22(-200,-550) B23(-200,-650) B24(-200,-750) B25(-200,-850) B26(-200,-950) B27(-200,-1050) B28(-200,-1150) B29(-200,-1250) B31(-200,-1450) C4(-300,1250) C5(-300,1150) C6(-300,1050) C7(-300,950) C8(-300,850) C9(-300,750) C10(-300,650) C11(-300,550) C12(-300,450) C13(-300,350) C14(-300,250) C15(-300,150) C16(-300,50) C17(-300,-50) C18(-300,-150) C19(-300,-250) C20(-300,-350) C21(-300,-450) C22(-300,-550) C23(-300,-650) C24(-300,-750) C25(-300,-850) C26(-300,-950) C27(-300,-1050) C28(-300,-1150) C29(-300,-1250)
Bottom Layer keep-out:
  circle w70: c0,1750 r90
  circle w70: c0,-1750 r90
Top Overlay:
  circle w10: c0,1750 r50
  circle w10: c0,-1750 r50
  rectangle: -65,1440 -50,1460
  rectangle: -135,1440 -65,1460
  rectangle: -65,1240 -50,1260
  rectangle: -65,1140 -50,1160
  rectangle: -65,1040 -50,1060
  rectangle: -65,940 -50,960
  rectangle: -65,840 -50,860
  rectangle: -65,740 -50,760
  rectangle: -65,640 -50,660
  rectangle: -65,540 -50,560
  rectangle: -65,440 -50,460
  rectangle: -65,340 -50,360
  rectangle: -65,240 -50,260
  rectangle: -65,140 -50,160
  rectangle: -65,40 -50,60
  rectangle: -65,-60 -50,-40
  rectangle: -65,-160 -50,-140
  rectangle: -65,-260 -50,-240
  rectangle: -65,-360 -50,-340
  rectangle: -65,-460 -50,-440
  rectangle: -65,-560 -50,-540
  rectangle: -65,-660 -50,-640
  rectangle: -65,-760 -50,-740
  rectangle: -65,-860 -50,-840
  rectangle: -65,-960 -50,-940
  rectangle: -65,-1060 -50,-1040
  rectangle: -65,-1160 -50,-1140
  rectangle: -65,-1260 -50,-1240
  rectangle: -135,-1460 -65,-1440
  rectangle: -65,-1460 -50,-1440
  rectangle: -165,1440 -135,1460
  rectangle: -265,1240 -235,1260
  rectangle: -165,1240 -135,1260
  rectangle: -165,1140 -135,1160
  rectangle: -265,1140 -235,1160
  rectangle: -265,1040 -235,1060
  rectangle: -165,1040 -135,1060
  rectangle: -165,940 -135,960
  rectangle: -265,940 -235,960
  rectangle: -265,840 -235,860
  rectangle: -165,840 -135,860
  rectangle: -165,740 -135,760
  rectangle: -265,740 -235,760
  rectangle: -265,640 -235,660
  rectangle: -165,640 -135,660
  rectangle: -165,540 -135,560
  rectangle: -265,540 -235,560
  rectangle: -265,440 -235,460
  rectangle: -165,440 -135,460
  rectangle: -165,340 -135,360
  rectangle: -265,340 -235,360
  rectangle: -265,240 -235,260
  rectangle: -165,240 -135,260
  rectangle: -165,140 -135,160
  rectangle: -265,140 -235,160
  rectangle: -265,40 -235,60
  rectangle: -165,40 -135,60
  rectangle: -165,-60 -135,-40
  rectangle: -265,-60 -235,-40
  rectangle: -265,-160 -235,-140
  rectangle: -165,-160 -135,-140
  rectangle: -165,-260 -135,-240
  rectangle: -265,-260 -235,-240
  rectangle: -265,-360 -235,-340
  rectangle: -165,-360 -135,-340
  rectangle: -165,-460 -135,-440
  rectangle: -265,-460 -235,-440
  rectangle: -265,-560 -235,-540
  rectangle: -165,-560 -135,-540
  rectangle: -165,-660 -135,-640
  rectangle: -265,-660 -235,-640
  rectangle: -265,-760 -235,-740
  rectangle: -165,-760 -135,-740
  rectangle: -165,-860 -135,-840
  rectangle: -265,-860 -235,-840
  rectangle: -265,-960 -235,-940
  rectangle: -165,-960 -135,-940
  rectangle: -165,-1060 -135,-1040
  rectangle: -265,-1060 -235,-1040
  rectangle: -265,-1160 -235,-1140
  rectangle: -165,-1160 -135,-1140
  rectangle: -165,-1260 -135,-1240
  rectangle: -265,-1260 -235,-1240
  rectangle: -165,-1460 -135,-1440
  lines w10: -50,-1650 -100,-1650 -100,-1850 113,-1850 ; -50,-1650 50,-1650 113,-1713 113,-1850 ; -50,-1650 -50,1650 ; -50,1650 -100,1650 -100,1850 113,1850 ; -50,1650 63,1650 113,1700 113,1850 ; 113,-1850 175,-1850 175,-1750 400,-1750 400,1750 175,1750 175,1850 113,1850
  text "1" at 0,1550 h77.5
  text "32" at 0,-1600 h77.5
  text "c" at -325,1625 h77.5
  text "b" at -250,1625 h77.5
  text "a" at -165,1625 h77.5
  text "DIN 41612 STV-M 78/2-M-abc" at 300,300 h77.5
Mechanical 1:
  lines w0: 110,-1969 110,1969
Mechanical 16:
  rectangle: -135,1240 -65,1260
  rectangle: -310,1240 -265,1260
  rectangle: -135,1140 -65,1160
  rectangle: -135,1040 -65,1060
  rectangle: -310,1140 -265,1160
  rectangle: -310,1040 -265,1060
  rectangle: -310,940 -265,960
  rectangle: -135,940 -65,960
  rectangle: -135,840 -65,860
  rectangle: -310,840 -265,860
  rectangle: -135,740 -65,760
  rectangle: -310,740 -265,760
  rectangle: -135,640 -65,660
  rectangle: -310,640 -265,660
  rectangle: -310,540 -265,560
  rectangle: -135,540 -65,560
  rectangle: -135,440 -65,460
  rectangle: -135,340 -65,360
  rectangle: -310,440 -265,460
  rectangle: -310,340 -265,360
  rectangle: -310,240 -265,260
  rectangle: -135,240 -65,260
  rectangle: -135,140 -65,160
  rectangle: -310,140 -265,160
  rectangle: -310,40 -265,60
  rectangle: -135,40 -65,60
  rectangle: -135,-60 -65,-40
  rectangle: -310,-60 -265,-40
  rectangle: -135,-160 -65,-140
  rectangle: -310,-160 -265,-140
  rectangle: -135,-260 -65,-240
  rectangle: -310,-260 -265,-240
  rectangle: -310,-360 -265,-340
  rectangle: -135,-360 -65,-340
  rectangle: -135,-460 -65,-440
  rectangle: -310,-460 -265,-440
  rectangle: -135,-660 -65,-640
  rectangle: -310,-660 -265,-640
  rectangle: -135,-560 -65,-540
  rectangle: -310,-560 -265,-540
  rectangle: -135,-760 -65,-740
  rectangle: -310,-760 -265,-740
  rectangle: -310,-860 -265,-840
  rectangle: -135,-860 -65,-840
  rectangle: -135,-960 -65,-940
  rectangle: -310,-960 -265,-940
  rectangle: -135,-1060 -65,-1040
  rectangle: -310,-1060 -265,-1040
  rectangle: -135,-1160 -65,-1140
  rectangle: -310,-1160 -265,-1140
  rectangle: -310,-1260 -265,-1240
  rectangle: -135,-1260 -65,-1240
  rectangle: -235,1240 -165,1260
  rectangle: -235,1140 -165,1160
  rectangle: -235,1040 -165,1060
  rectangle: -235,940 -165,960
  rectangle: -235,840 -165,860
  rectangle: -235,740 -165,760
  rectangle: -235,640 -165,660
  rectangle: -235,540 -165,560
  rectangle: -235,440 -165,460
  rectangle: -235,340 -165,360
  rectangle: -235,240 -165,260
  rectangle: -235,140 -165,160
  rectangle: -235,40 -165,60
  rectangle: -235,-60 -165,-40
  rectangle: -235,-160 -165,-140
  rectangle: -235,-260 -165,-240
  rectangle: -235,-360 -165,-340
  rectangle: -235,-460 -165,-440
  rectangle: -235,-560 -165,-540
  rectangle: -235,-660 -165,-640
  rectangle: -235,-760 -165,-740
  rectangle: -235,-860 -165,-840
  rectangle: -235,-960 -165,-940
  rectangle: -235,-1060 -165,-1040
  rectangle: -235,-1160 -165,-1140
  rectangle: -235,-1260 -165,-1240
  rectangle: -210,1440 -165,1460
  rectangle: -210,-1460 -165,-1440
Via Holes:
  circle w70: c0,1750 r90
  circle w70: c0,-1750 r90

## M78-2C [mil]
pads (90):
  round 110 hole 110: 1(0,-1750) 1(0,1750)
  oct 60x60 hole 40: A1(-100,1550) A3(-100,1350) A4(-100,1250) A5(-100,1150) A6(-100,1050) A7(-100,950) A8(-100,850) A9(-100,750) A10(-100,650) A11(-100,550) A12(-100,450) A13(-100,350) A14(-100,250) A15(-100,150) A16(-100,50) A17(-100,-50) A18(-100,-150) A19(-100,-250) A20(-100,-350) A21(-100,-450) A22(-100,-550) A23(-100,-650) A24(-100,-750) A25(-100,-850) A26(-100,-950) A27(-100,-1050) A28(-100,-1150) A29(-100,-1250) A30(-100,-1350) A32(-100,-1550) B2(-200,1450) B4(-200,1250) B5(-200,1150) B6(-200,1050) B7(-200,950) B8(-200,850) B9(-200,750) B10(-200,650) B11(-200,550) B12(-200,450) B13(-200,350) B14(-200,250) B15(-200,150) B16(-200,50) B17(-200,-50) B18(-200,-150) B19(-200,-250) B20(-200,-350) B21(-200,-450) B22(-200,-550) B23(-200,-650) B24(-200,-750) B25(-200,-850) B26(-200,-950) B27(-200,-1050) B28(-200,-1150) B29(-200,-1250) B31(-200,-1450) C1(-300,1550) C3(-300,1350) C4(-300,1250) C5(-300,1150) C6(-300,1050) C7(-300,950) C8(-300,850) C9(-300,750) C10(-300,650) C11(-300,550) C12(-300,450) C13(-300,350) C14(-300,250) C15(-300,150) C16(-300,50) C17(-300,-50) C18(-300,-150) C19(-300,-250) C20(-300,-350) C21(-300,-450) C22(-300,-550) C23(-300,-650) C24(-300,-750) C25(-300,-850) C26(-300,-950) C27(-300,-1050) C28(-300,-1150) C29(-300,-1250) C30(-300,-1350) C32(-300,-1550)
Bottom Layer keep-out:
  circle w70: c0,1750 r90
  circle w70: c0,-1750 r90
Top Overlay:
  circle w10: c0,1750 r50
  circle w10: c0,-1750 r50
  rectangle: -65,1540 -50,1560
  rectangle: -65,1440 -50,1460
  rectangle: -135,1440 -65,1460
  rectangle: -65,1340 -50,1360
  rectangle: -65,1240 -50,1260
  rectangle: -65,1140 -50,1160
  rectangle: -65,1040 -50,1060
  rectangle: -65,940 -50,960
  rectangle: -65,840 -50,860
  rectangle: -65,740 -50,760
  rectangle: -65,640 -50,660
  rectangle: -65,540 -50,560
  rectangle: -65,440 -50,460
  rectangle: -65,340 -50,360
  rectangle: -65,240 -50,260
  rectangle: -65,140 -50,160
  rectangle: -65,40 -50,60
  rectangle: -65,-60 -50,-40
  rectangle: -65,-160 -50,-140
  rectangle: -65,-260 -50,-240
  rectangle: -65,-360 -50,-340
  rectangle: -65,-460 -50,-440
  rectangle: -65,-560 -50,-540
  rectangle: -65,-660 -50,-640
  rectangle: -65,-760 -50,-740
  rectangle: -65,-860 -50,-840
  rectangle: -65,-960 -50,-940
  rectangle: -65,-1060 -50,-1040
  rectangle: -65,-1160 -50,-1140
  rectangle: -65,-1260 -50,-1240
  rectangle: -65,-1360 -50,-1340
  rectangle: -135,-1460 -65,-1440
  rectangle: -65,-1460 -50,-1440
  rectangle: -65,-1560 -50,-1540
  rectangle: -235,1540 -165,1560
  rectangle: -165,1540 -135,1560
  rectangle: -265,1540 -235,1560
  rectangle: -165,1440 -135,1460
  rectangle: -165,1340 -135,1360
  rectangle: -235,1340 -165,1360
  rectangle: -265,1340 -235,1360
  rectangle: -265,1240 -235,1260
  rectangle: -165,1240 -135,1260
  rectangle: -165,1140 -135,1160
  rectangle: -265,1140 -235,1160
  rectangle: -265,1040 -235,1060
  rectangle: -165,1040 -135,1060
  rectangle: -165,940 -135,960
  rectangle: -265,940 -235,960
  rectangle: -265,840 -235,860
  rectangle: -165,840 -135,860
  rectangle: -165,740 -135,760
  rectangle: -265,740 -235,760
  rectangle: -265,640 -235,660
  rectangle: -165,640 -135,660
  rectangle: -165,540 -135,560
  rectangle: -265,540 -235,560
  rectangle: -265,440 -235,460
  rectangle: -165,440 -135,460
  rectangle: -165,340 -135,360
  rectangle: -265,340 -235,360
  rectangle: -265,240 -235,260
  rectangle: -165,240 -135,260
  rectangle: -165,140 -135,160
  rectangle: -265,140 -235,160
  rectangle: -265,40 -235,60
  rectangle: -165,40 -135,60
  rectangle: -165,-60 -135,-40
  rectangle: -265,-60 -235,-40
  rectangle: -265,-160 -235,-140
  rectangle: -165,-160 -135,-140
  rectangle: -165,-260 -135,-240
  rectangle: -265,-260 -235,-240
  rectangle: -265,-360 -235,-340
  rectangle: -165,-360 -135,-340
  rectangle: -165,-460 -135,-440
  rectangle: -265,-460 -235,-440
  rectangle: -265,-560 -235,-540
  rectangle: -165,-560 -135,-540
  rectangle: -165,-660 -135,-640
  rectangle: -265,-660 -235,-640
  rectangle: -265,-760 -235,-740
  rectangle: -165,-760 -135,-740
  rectangle: -165,-860 -135,-840
  rectangle: -265,-860 -235,-840
  rectangle: -265,-960 -235,-940
  rectangle: -165,-960 -135,-940
  rectangle: -165,-1060 -135,-1040
  rectangle: -265,-1060 -235,-1040
  rectangle: -265,-1160 -235,-1140
  rectangle: -165,-1160 -135,-1140
  rectangle: -165,-1260 -135,-1240
  rectangle: -265,-1260 -235,-1240
  rectangle: -265,-1360 -235,-1340
  rectangle: -235,-1360 -165,-1340
  rectangle: -165,-1360 -135,-1340
  rectangle: -165,-1460 -135,-1440
  rectangle: -265,-1560 -235,-1540
  rectangle: -235,-1560 -165,-1540
  rectangle: -165,-1560 -135,-1540
  lines w10: -50,-1650 -100,-1650 -100,-1850 113,-1850 ; -50,-1650 50,-1650 113,-1713 113,-1850 ; -50,-1650 -50,1650 ; -50,1650 -100,1650 -100,1850 113,1850 ; -50,1650 63,1650 113,1700 113,1850 ; 113,-1850 175,-1850 175,-1750 400,-1750 400,1750 175,1750 175,1850 113,1850
  text "1" at 0,1550 h77.5
  text "32" at 0,-1600 h77.5
  text "c" at -325,1625 h77.5
  text "b" at -250,1625 h77.5
  text "a" at -165,1625 h77.5
  text "DIN 41612 STV-M 78/2-M-abc" at 300,300 h77.5
Mechanical 1:
  lines w0: 110,-1969 110,1969
Mechanical 16:
  rectangle: -135,1540 -65,1560
  rectangle: -310,1540 -265,1560
  rectangle: -310,1340 -265,1360
  rectangle: -135,1340 -65,1360
  rectangle: -135,1240 -65,1260
  rectangle: -310,1240 -265,1260
  rectangle: -135,1140 -65,1160
  rectangle: -135,1040 -65,1060
  rectangle: -310,1140 -265,1160
  rectangle: -310,1040 -265,1060
  rectangle: -310,940 -265,960
  rectangle: -135,940 -65,960
  rectangle: -135,840 -65,860
  rectangle: -310,840 -265,860
  rectangle: -135,740 -65,760
  rectangle: -310,740 -265,760
  rectangle: -135,640 -65,660
  rectangle: -310,640 -265,660
  rectangle: -310,540 -265,560
  rectangle: -135,540 -65,560
  rectangle: -135,440 -65,460
  rectangle: -135,340 -65,360
  rectangle: -310,440 -265,460
  rectangle: -310,340 -265,360
  rectangle: -310,240 -265,260
  rectangle: -135,240 -65,260
  rectangle: -135,140 -65,160
  rectangle: -310,140 -265,160
  rectangle: -310,40 -265,60
  rectangle: -135,40 -65,60
  rectangle: -135,-60 -65,-40
  rectangle: -310,-60 -265,-40
  rectangle: -135,-160 -65,-140
  rectangle: -310,-160 -265,-140
  rectangle: -135,-260 -65,-240
  rectangle: -310,-260 -265,-240
  rectangle: -310,-360 -265,-340
  rectangle: -135,-360 -65,-340
  rectangle: -135,-460 -65,-440
  rectangle: -310,-460 -265,-440
  rectangle: -135,-660 -65,-640
  rectangle: -310,-660 -265,-640
  rectangle: -135,-560 -65,-540
  rectangle: -310,-560 -265,-540
  rectangle: -135,-760 -65,-740
  rectangle: -310,-760 -265,-740
  rectangle: -310,-860 -265,-840
  rectangle: -135,-860 -65,-840
  rectangle: -135,-960 -65,-940
  rectangle: -310,-960 -265,-940
  rectangle: -135,-1060 -65,-1040
  rectangle: -310,-1060 -265,-1040
  rectangle: -135,-1160 -65,-1140
  rectangle: -310,-1160 -265,-1140
  rectangle: -310,-1260 -265,-1240
  rectangle: -135,-1260 -65,-1240
  rectangle: -135,-1360 -65,-1340
  rectangle: -310,-1360 -265,-1340
  rectangle: -135,-1560 -65,-1540
  rectangle: -310,-1560 -265,-1540
  rectangle: -235,1240 -165,1260
  rectangle: -235,1140 -165,1160
  rectangle: -235,1040 -165,1060
  rectangle: -235,940 -165,960
  rectangle: -235,840 -165,860
  rectangle: -235,740 -165,760
  rectangle: -235,640 -165,660
  rectangle: -235,540 -165,560
  rectangle: -235,440 -165,460
  rectangle: -235,340 -165,360
  rectangle: -235,240 -165,260
  rectangle: -235,140 -165,160
  rectangle: -235,40 -165,60
  rectangle: -235,-60 -165,-40
  rectangle: -235,-160 -165,-140
  rectangle: -235,-260 -165,-240
  rectangle: -235,-360 -165,-340
  rectangle: -235,-460 -165,-440
  rectangle: -235,-560 -165,-540
  rectangle: -235,-660 -165,-640
  rectangle: -235,-760 -165,-740
  rectangle: -235,-860 -165,-840
  rectangle: -235,-960 -165,-940
  rectangle: -235,-1060 -165,-1040
  rectangle: -235,-1160 -165,-1140
  rectangle: -235,-1260 -165,-1240
  rectangle: -210,1440 -165,1460
  rectangle: -210,-1460 -165,-1440
Via Holes:
  circle w70: c0,1750 r90
  circle w70: c0,-1750 r90

## M78-2M [mil]
pads (90):
  round 110 hole 110: 1(0,-1750) 1(0,1750)
  oct 60x60 hole 40: A1(-100,1550) A3(-100,1350) A4(-100,1250) A5(-100,1150) A6(-100,1050) A7(-100,950) A8(-100,850) A9(-100,750) A10(-100,650) A11(-100,550) A12(-100,450) A13(-100,350) A14(-100,250) A15(-100,150) A16(-100,50) A17(-100,-50) A18(-100,-150) A19(-100,-250) A20(-100,-350) A21(-100,-450) A22(-100,-550) A23(-100,-650) A24(-100,-750) A25(-100,-850) A26(-100,-950) A27(-100,-1050) A28(-100,-1150) A29(-100,-1250) A30(-100,-1350) A32(-100,-1550) B2(-200,1450) B4(-200,1250) B5(-200,1150) B6(-200,1050) B7(-200,950) B8(-200,850) B9(-200,750) B10(-200,650) B11(-200,550) B12(-200,450) B13(-200,350) B14(-200,250) B15(-200,150) B16(-200,50) B17(-200,-50) B18(-200,-150) B19(-200,-250) B20(-200,-350) B21(-200,-450) B22(-200,-550) B23(-200,-650) B24(-200,-750) B25(-200,-850) B26(-200,-950) B27(-200,-1050) B28(-200,-1150) B29(-200,-1250) B31(-200,-1450) C1(-300,1550) C3(-300,1350) C4(-300,1250) C5(-300,1150) C6(-300,1050) C7(-300,950) C8(-300,850) C9(-300,750) C10(-300,650) C11(-300,550) C12(-300,450) C13(-300,350) C14(-300,250) C15(-300,150) C16(-300,50) C17(-300,-50) C18(-300,-150) C19(-300,-250) C20(-300,-350) C21(-300,-450) C22(-300,-550) C23(-300,-650) C24(-300,-750) C25(-300,-850) C26(-300,-950) C27(-300,-1050) C28(-300,-1150) C29(-300,-1250) C30(-300,-1350) C32(-300,-1550)
Bottom Layer keep-out:
  circle w70: c0,1750 r90
  circle w70: c0,-1750 r90
Top Overlay:
  drawing of 172 lines, arcs and shapes, not listed
  text "1" at 0,1550 h77.5
  text "32" at 0,-1600 h77.5
  text "DIN 41612-M 78+2" at 300,300 h77.5
  text "c" at -325,1625 h77.5
  text "b" at -250,1625 h77.5
  text "a" at -165,1625 h77.5
Mechanical 1:
  lines w0: 110,-1969 110,1969
Mechanical 16:
  rectangle: -135,1540 -65,1560
  rectangle: -310,1540 -265,1560
  rectangle: -310,1340 -265,1360
  rectangle: -135,1340 -65,1360
  rectangle: -135,1240 -65,1260
  rectangle: -310,1240 -265,1260
  rectangle: -135,1140 -65,1160
  rectangle: -135,1040 -65,1060
  rectangle: -310,1140 -265,1160
  rectangle: -310,1040 -265,1060
  rectangle: -310,940 -265,960
  rectangle: -135,940 -65,960
  rectangle: -135,840 -65,860
  rectangle: -310,840 -265,860
  rectangle: -135,740 -65,760
  rectangle: -310,740 -265,760
  rectangle: -135,640 -65,660
  rectangle: -310,640 -265,660
  rectangle: -310,540 -265,560
  rectangle: -135,540 -65,560
  rectangle: -135,440 -65,460
  rectangle: -135,340 -65,360
  rectangle: -310,440 -265,460
  rectangle: -310,340 -265,360
  rectangle: -310,240 -265,260
  rectangle: -135,240 -65,260
  rectangle: -135,140 -65,160
  rectangle: -310,140 -265,160
  rectangle: -310,40 -265,60
  rectangle: -135,40 -65,60
  rectangle: -135,-60 -65,-40
  rectangle: -310,-60 -265,-40
  rectangle: -135,-160 -65,-140
  rectangle: -310,-160 -265,-140
  rectangle: -135,-260 -65,-240
  rectangle: -310,-260 -265,-240
  rectangle: -310,-360 -265,-340
  rectangle: -135,-360 -65,-340
  rectangle: -135,-460 -65,-440
  rectangle: -310,-460 -265,-440
  rectangle: -135,-660 -65,-640
  rectangle: -310,-660 -265,-640
  rectangle: -135,-560 -65,-540
  rectangle: -310,-560 -265,-540
  rectangle: -135,-760 -65,-740
  rectangle: -310,-760 -265,-740
  rectangle: -310,-860 -265,-840
  rectangle: -135,-860 -65,-840
  rectangle: -135,-960 -65,-940
  rectangle: -310,-960 -265,-940
  rectangle: -135,-1060 -65,-1040
  rectangle: -310,-1060 -265,-1040
  rectangle: -135,-1160 -65,-1140
  rectangle: -310,-1160 -265,-1140
  rectangle: -310,-1260 -265,-1240
  rectangle: -135,-1260 -65,-1240
  rectangle: -135,-1360 -65,-1340
  rectangle: -310,-1360 -265,-1340
  rectangle: -135,-1560 -65,-1540
  rectangle: -310,-1560 -265,-1540
  rectangle: -235,1240 -165,1260
  rectangle: -235,1140 -165,1160
  rectangle: -235,1040 -165,1060
  rectangle: -235,940 -165,960
  rectangle: -235,840 -165,860
  rectangle: -235,740 -165,760
  rectangle: -235,640 -165,660
  rectangle: -235,540 -165,560
  rectangle: -235,440 -165,460
  rectangle: -235,340 -165,360
  rectangle: -235,240 -165,260
  rectangle: -235,140 -165,160
  rectangle: -235,40 -165,60
  rectangle: -235,-60 -165,-40
  rectangle: -235,-160 -165,-140
  rectangle: -235,-260 -165,-240
  rectangle: -235,-360 -165,-340
  rectangle: -235,-460 -165,-440
  rectangle: -235,-560 -165,-540
  rectangle: -235,-660 -165,-640
  rectangle: -235,-760 -165,-740
  rectangle: -235,-860 -165,-840
  rectangle: -235,-960 -165,-940
  rectangle: -235,-1060 -165,-1040
  rectangle: -235,-1160 -165,-1140
  rectangle: -235,-1260 -165,-1240
  rectangle: -210,1440 -165,1460
  rectangle: -210,-1460 -165,-1440
Via Holes:
  circle w70: c0,1750 r90
  circle w70: c0,-1750 r90

## M160FR [mil]
pads (162):
  round 110 hole 110: 1(0,-1750) 1(0,1750)
  oct 60x60 hole 40: A1(-100,1550) A2(-100,1450) A3(-100,1350) A4(-100,1250) A5(-100,1150) A6(-100,1050) A7(-100,950) A8(-100,850) A9(-100,750) A10(-100,650) A11(-100,550) A12(-100,450) A13(-100,350) A14(-100,250) A15(-100,150) A16(-100,50) A17(-100,-50) A18(-100,-150) A19(-100,-250) A20(-100,-350) A21(-100,-450) A22(-100,-550) A23(-100,-650) A24(-100,-750) A25(-100,-850) A26(-100,-950) A27(-100,-1050) A28(-100,-1150) A29(-100,-1250) A30(-100,-1350) A31(-100,-1450) A32(-100,-1550) B1(-200,1550) B2(-200,1450) B3(-200,1350) B4(-200,1250) B5(-200,1150) B6(-200,1050) B7(-200,950) B8(-200,850) B9(-200,750) B10(-200,650) B11(-200,550) B12(-200,450) B13(-200,350) B14(-200,250) B15(-200,150) B16(-200,50) B17(-200,-50) B18(-200,-150) B19(-200,-250) B20(-200,-350) B21(-200,-450) B22(-200,-550) B23(-200,-650) B24(-200,-750) B25(-200,-850) B26(-200,-950) B27(-200,-1050) B28(-200,-1150) B29(-200,-1250) B30(-200,-1350) B31(-200,-1450) B32(-200,-1550) C1(-300,1550) C2(-300,1450) C3(-300,1350) C4(-300,1250) C5(-300,1150) C6(-300,1050) C7(-300,950) C8(-300,850) C9(-300,750) C10(-300,650) C11(-300,550) C12(-300,450) C13(-300,350) C14(-300,250) C15(-300,150) C16(-300,50) C17(-300,-50) C18(-300,-150) C19(-300,-250) C20(-300,-350) C21(-300,-450) C22(-300,-550) C23(-300,-650) C24(-300,-750) C25(-300,-850) C26(-300,-950) C27(-300,-1050) C28(-300,-1150) C29(-300,-1250) C30(-300,-1350) C31(-300,-1450) C32(-300,-1550) D1(-400,1550) D2(-400,1450) D3(-400,1350) D4(-400,1250) D5(-400,1150) D6(-400,1050) D7(-400,950) D8(-400,850) D9(-400,750) D10(-400,650) D11(-400,550) D12(-400,450) D13(-400,350) D14(-400,250) D15(-400,150) D16(-400,50) D17(-400,-50) D18(-400,-150) D19(-400,-250) D20(-400,-350) D21(-400,-450) D22(-400,-550) D23(-400,-650) D24(-400,-750) D25(-400,-850) D26(-400,-950) D27(-400,-1050) D28(-400,-1150) D29(-400,-1250) D30(-400,-1350) D31(-400,-1450) D32(-400,-1550) E1(-500,1550) E2(-500,1450) E3(-500,1350) E4(-500,1250) E5(-500,1150) E6(-500,1050) E7(-500,950) E8(-500,850) E9(-500,750) E10(-500,650) E11(-500,550) E12(-500,450) E13(-500,350) E14(-500,250) E15(-500,150) E16(-500,50) E17(-500,-50) E18(-500,-150) E19(-500,-250) E20(-500,-350) E21(-500,-450) E22(-500,-550) E23(-500,-650) E24(-500,-750) E25(-500,-850) E26(-500,-950) E27(-500,-1050) E28(-500,-1150) E29(-500,-1250) E30(-500,-1350) E31(-500,-1450) E32(-500,-1550)
Bottom Layer keep-out:
  circle w70: c0,1750 r90
  circle w70: c0,-1750 r90
Top Overlay:
  circle w6: c0,1750 r50
  circle w6: c0,-1750 r50
  lines w2: 109,-1650 109,1650
  lines w10: -100,-1650 -100,-1850 113,-1850 ; -100,-1650 109,-1650 113,-1650 113,-1850 ; -100,-1650 -550,-1650 -550,1650 -100,1650 ; -100,1650 -100,1850 113,1850 ; -100,1650 109,1650 113,1650 113,1850 ; 113,-1850 175,-1850 175,-1750 400,-1750 400,1750 175,1750 175,1850 113,1850
  text "1" at -30,1540 h77.5
  text "32" at 9,-1600 h77.5
  text "a" at -125,1605 h77.5
  text "b" at -220,1605 h77.5
  text "c" at -325,1605 h77.5
  text "d" at -425,1605 h77.5
  text "e" at -525,1605 h77.5
  text "DIN 41612-Five-Row 160" at 300,200 h77.5
Mechanical 1:
  lines w0: 110,-1969 110,1969
Mechanical 16:
  rectangle: -550,1530 -50,1570
  rectangle: -550,1430 -50,1470
  rectangle: -550,1330 -50,1370
  rectangle: -550,1230 -50,1270
  rectangle: -550,1130 -50,1170
  rectangle: -550,1030 -50,1070
  rectangle: -550,930 -50,970
  rectangle: -550,830 -50,870
  rectangle: -550,730 -50,770
  rectangle: -550,630 -50,670
  rectangle: -550,530 -50,570
  rectangle: -550,430 -50,470
  rectangle: -550,330 -50,370
  rectangle: -550,230 -50,270
  rectangle: -550,130 -50,170
  rectangle: -550,30 -50,70
  rectangle: -550,-70 -50,-30
  rectangle: -550,-170 -50,-130
  rectangle: -550,-270 -50,-230
  rectangle: -550,-370 -50,-330
  rectangle: -550,-470 -50,-430
  rectangle: -550,-570 -50,-530
  rectangle: -550,-670 -50,-630
  rectangle: -550,-770 -50,-730
  rectangle: -550,-870 -50,-830
  rectangle: -550,-970 -50,-930
  rectangle: -550,-1070 -50,-1030
  rectangle: -550,-1170 -50,-1130
  rectangle: -550,-1270 -50,-1230
  rectangle: -550,-1370 -50,-1330
  rectangle: -550,-1470 -50,-1430
  rectangle: -550,-1570 -50,-1530
Via Holes:
  circle w70: c0,1750 r90
  circle w70: c0,-1750 r90

## M617-31 [mm]
pads (33):
  oct 1.95x1.95 hole 1.3: 1(-4,35) 2(-6.5,32.5) 3(-4,30) 4(-6.5,27.5) 5(-4,25) 6(-6.5,22.5) 7(-4,20) 8(-6.5,17.5) 9(-4,15) 10(-6.5,12.5) 11(-4,10) 12(-6.5,7.5) 13(-4,5) 14(-6.5,2.5) 15(-4,0) 16(-6.5,-2.5) 17(-4,-5) 18(-6.5,-7.5) 19(-4,-10) 20(-6.5,-12.5) 21(-4,-15) 22(-6.5,-17.5) 23(-4,-20) 24(-6.5,-22.5) 25(-4,-25) 26(-6.5,-27.5) 27(-4,-30) 28(-6.5,-32.5) 29(-4,-35) 30(-6.5,-37.5) 31(-4,-40)
  round 2.8 hole 2.8: 1(-1.5,-45) 1(-1.5,40)
Top Overlay:
  lines w0.203: -0.3,-43.8 ccw(c-1.504,-45) -2.8,-43.9 -2.8,-46.1 ccw(c-1.5,-45) -0.2,-46.1 -0.2,-43.9 ; -0.3,41.2 ccw(c-1.504,40) -2.8,41.1 -2.8,38.9 ccw(c-1.5,40) -0.2,38.9 -0.2,41.1 ; -5.3,-47.8 -5.3,-41.5 -2.5,-41.5 -2.5,36.5 -5.3,36.5 -5.3,42.8 2.7,42.8 2.7,-47.8 -5.3,-47.8
  lines w1.016: 3.1,-40 9.8,-40 ; 3.1,-37.5 9.8,-37.5 ; 3.1,-35 9.8,-35 ; 3.1,-32.5 9.8,-32.5 ; 3.1,-30 9.8,-30 ; 3.1,-27.5 9.8,-27.5 ; 3.1,-25 9.8,-25 ; 3.1,-22.5 9.8,-22.5 ; 3.1,-20 9.8,-20 ; 3.1,-17.5 9.8,-17.5 ; 3.1,-15 9.8,-15 ; 3.1,-12.5 9.8,-12.5 ; 3.1,-10 9.8,-10 ; 3.1,-7.5 9.8,-7.5 ; 3.1,-5 9.8,-5 ; 3.1,-2.5 9.8,-2.5 ; 3.1,0 9.8,0 ; 3.1,2.5 9.8,2.5 ; 3.1,5 9.8,5 ; 3.1,7.5 9.8,7.5 ; 3.1,10 9.8,10 ; 3.1,12.5 9.8,12.5 ; 3.1,15 9.8,15 ; 3.1,17.5 9.8,17.5 ; 3.1,20 9.8,20 ; 3.1,22.5 9.8,22.5 ; 3.1,25 9.8,25 ; 3.1,27.5 9.8,27.5 ; 3.1,30 9.8,30 ; 3.1,32.5 9.8,32.5 ; 3.1,35 9.8,35
  text "1" at -0.05,34.4 h2.99
  text "31" at -0.085,-41.35 h2.99
Mechanical 16:
  lines w1.016: -6.5,-37.5 -2.9,-37.5 ; -6.5,-32.5 -2.9,-32.5 ; -6.5,-27.5 -2.9,-27.5 ; -6.5,-22.5 -2.9,-22.5 ; -6.5,-17.5 -2.9,-17.5 ; -6.5,-12.5 -2.9,-12.5 ; -6.5,-7.5 -2.9,-7.5 ; -6.5,-2.5 -2.9,-2.5 ; -6.5,2.5 -2.9,2.5 ; -6.5,7.5 -2.9,7.5 ; -6.5,12.5 -2.9,12.5 ; -6.5,17.5 -2.9,17.5 ; -6.5,22.5 -2.9,22.5 ; -6.5,27.5 -2.9,27.5 ; -6.5,32.5 -2.9,32.5 ; -4,-40 -2.9,-40 ; -4,-35 -2.9,-35 ; -4,-30 -2.9,-30 ; -4,-25 -2.9,-25 ; -4,-20 -2.9,-20 ; -4,-15 -2.9,-15 ; -4,-10 -2.9,-10 ; -4,-5 -2.9,-5 ; -4,0 -2.9,0 ; -4,5 -2.9,5 ; -4,10 -2.9,10 ; -4,15 -2.9,15 ; -4,20 -2.9,20 ; -4,25 -2.9,25 ; -4,30 -2.9,30 ; -4,35 -2.9,35

## MAB16Q2 [mil]
pads (18):
  round 110 hole 110: 1(38,-984.25) 1(38,984.25)
  oct 48x48 hole 32: A2(50,650) A4(50,450) A6(50,250) A8(50,50) A10(50,-150) A12(50,-350) A14(50,-550) A16(50,-750) B2(-50,650) B4(-50,450) B6(-50,250) B8(-50,50) B10(-50,-150) B12(-50,-350) B14(-50,-550) B16(-50,-750)
Bottom Layer keep-out:
  circle w70: c38,-984.25 r90
  circle w70: c38,984.25 r90
Top Overlay:
  circle w10: c38,-984.25 r50
  circle w10: c38,984.25 r50
  lines w10: -50,-920 -50,-875 ; -50,920 -50,875 ; 160,1040 160,950 ; 160.87,1040.12 ccw(c137.99,1036.99) 140,1060 -75,1060 ; -160,-875 -160,875 ; -160,-875 -160,-1040 ccw(c-140,-1040) -140,-1060 -75,-1060 ; -160,-875 -50,-875 ; -160,875 -160,1040 cw(c-140,1040) -140,1060 -75,1060 ; -160,875 -50,875 ; -75,-1060 -75,-950 -15,-875 35,-875 ; -75,-1060 140,-1060 ccw(c140,-1040) 160,-1040 160,-950 ; -75,1060 -75,950 -15,875 35,875 ; -50,-875 -50,-840 -125,-840 -125,840 -50,840 -50,875 ; 35,-875 35,-815 125,-815 125,815 35,815 35,875 ; 35,-875 70,-875 ; 35,875 70,875 ; 70,-875 105,-875 160,-950 ; 70,-875 70,-850 160,-850 ; 70,875 105,875 160,950 ; 70,875 70,850 160,850 ; 160,-950 160,-850 ; 160,-850 160,850 ; 160,850 160,950
  text "1" at 120,750 h49.6
  text "16" at 115,-765 h49.6
  text "a" at 34.37,740.63 h77.5
  text "b" at -70,745.63 h77.5
  text "DIN41612-Q/2" at -175,250 h77.5
Via Holes:
  circle w70: c38,-984.25 r90
  circle w70: c38,984.25 r90

## MAB32 [mil]
pads (34):
  round 110 hole 110: 1(0,-1750) 1(0,1750)
  oct 54x54 hole 36: A1(-100,1550) A2(-100,1450) A3(-100,1350) A4(-100,1250) A5(-100,1150) A6(-100,1050) A7(-100,950) A8(-100,850) A9(-100,750) A10(-100,650) A11(-100,550) A12(-100,450) A13(-100,350) A14(-100,250) A15(-100,150) A16(-100,50) A17(-100,-50) A18(-100,-150) A19(-100,-250) A20(-100,-350) A21(-100,-450) A22(-100,-550) A23(-100,-650) A24(-100,-750) A25(-100,-850) A26(-100,-950) A27(-100,-1050) A28(-100,-1150) A29(-100,-1250) A30(-100,-1350) A31(-100,-1450) A32(-100,-1550)
Top Overlay:
  circle w10: c0,1750 r50
  circle w10: c0,-1750 r50
  rectangle: -65,1540 -50,1560
  rectangle: -65,1440 -50,1460
  rectangle: -65,1340 -50,1360
  rectangle: -65,1240 -50,1260
  rectangle: -65,1140 -50,1160
  rectangle: -65,1040 -50,1060
  rectangle: -65,940 -50,960
  rectangle: -65,840 -50,860
  rectangle: -65,740 -50,760
  rectangle: -65,640 -50,660
  rectangle: -65,540 -50,560
  rectangle: -65,440 -50,460
  rectangle: -65,340 -50,360
  rectangle: -65,240 -50,260
  rectangle: -65,140 -50,160
  rectangle: -65,40 -50,60
  rectangle: -65,-60 -50,-40
  rectangle: -65,-160 -50,-140
  rectangle: -65,-260 -50,-240
  rectangle: -65,-360 -50,-340
  rectangle: -65,-460 -50,-440
  rectangle: -65,-560 -50,-540
  rectangle: -65,-660 -50,-640
  rectangle: -65,-760 -50,-740
  rectangle: -65,-860 -50,-840
  rectangle: -65,-960 -50,-940
  rectangle: -65,-1060 -50,-1040
  rectangle: -65,-1160 -50,-1140
  rectangle: -65,-1260 -50,-1240
  rectangle: -65,-1360 -50,-1340
  rectangle: -65,-1460 -50,-1440
  rectangle: -65,-1560 -50,-1540
  lines w10: -50,-1650 -100,-1650 -100,-1850 113,-1850 ; -50,-1650 50,-1650 113,-1713 113,-1850 ; -50,-1650 -50,-1525 ; -50,-1525 -50,-1425 ; -50,-1525 110,-1525 110,-1425 -50,-1425 ; -50,-1425 -50,-1375 ; -50,-1375 -50,-1225 ; -50,-1375 110,-1375 110,-1225 -50,-1225 ; -50,-1225 -50,-1175 ; -50,-1175 -50,-825 ; -50,-1175 110,-1175 110,-825 -50,-825 ; -50,-825 -50,-775 ; -50,-775 -50,-425 ; -50,-775 110,-775 110,-425 -50,-425 ; -50,-425 -50,-375 ; -50,-375 -50,-25 ; -50,-375 110,-375 110,-25 -50,-25 ; -50,-25 -50,25 ; -50,25 -50,375 ; -50,25 110,25 110,375 -50,375 ; -50,375 -50,425 ; -50,425 -50,775 ; -50,425 110,425 110,775 -50,775 ; -50,775 -50,825 ; -50,825 -50,1175 ; -50,825 110,825 110,1175 -50,1175 ; -50,1175 -50,1225 ; -50,1225 -50,1375 ; -50,1225 110,1225 110,1375 -50,1375 ; -50,1375 -50,1425 ; -50,1425 -50,1525 ; -50,1425 110,1425 110,1525 -50,1525 ; -50,1525 -50,1650 ; -50,1650 -100,1650 -100,1850 113,1850 ; -50,1650 63,1650 113,1700 113,1850 ; 113,-1850 175,-1850 175,-1750 400,-1750 400,1750 175,1750 175,1850 113,1850
  text "1" at 0,1550 h77.5
  text "32" at 0,-1600 h77.5
  text "DIN 41612 -C" at 300,900 h77.5
Mechanical 1:
  lines w0: 110,-1969 110,1969

## MAB32B2 [mil]
pads (34):
  round 110 hole 110: 1(0,-950) 1(0,950)
  oct 60x60 hole 40: A1(-100,750) A2(-100,650) A3(-100,550) A4(-100,450) A5(-100,350) A6(-100,250) A7(-100,150) A8(-100,50) A9(-100,-50) A10(-100,-150) A11(-100,-250) A12(-100,-350) A13(-100,-450) A14(-100,-550) A15(-100,-650) A16(-100,-750) B1(-200,750) B2(-200,650) B3(-200,550) B4(-200,450) B5(-200,350) B6(-200,250) B7(-200,150) B8(-200,50) B9(-200,-50) B10(-200,-150) B11(-200,-250) B12(-200,-350) B13(-200,-450) B14(-200,-550) B15(-200,-650) B16(-200,-750)
Bottom Layer keep-out:
  circle w70: c0,950 r90
  circle w70: c0,-950 r90
Top Overlay:
  circle w10: c0,950 r50
  circle w10: c0,-950 r50
  rectangle: -65,740 -50,760
  rectangle: -65,640 -50,660
  rectangle: -65,540 -50,560
  rectangle: -65,440 -50,460
  rectangle: -65,340 -50,360
  rectangle: -65,240 -50,260
  rectangle: -65,140 -50,160
  rectangle: -65,40 -50,60
  rectangle: -65,-60 -50,-40
  rectangle: -65,-160 -50,-140
  rectangle: -65,-260 -50,-240
  rectangle: -65,-360 -50,-340
  rectangle: -65,-460 -50,-440
  rectangle: -65,-560 -50,-540
  rectangle: -65,-660 -50,-640
  rectangle: -65,-760 -50,-740
  rectangle: -165,740 -135,760
  rectangle: -165,640 -135,660
  rectangle: -165,540 -135,560
  rectangle: -165,440 -135,460
  rectangle: -165,340 -135,360
  rectangle: -165,240 -135,260
  rectangle: -165,140 -135,160
  rectangle: -165,40 -135,60
  rectangle: -165,-60 -135,-40
  rectangle: -165,-160 -135,-140
  rectangle: -165,-260 -135,-240
  rectangle: -165,-360 -135,-340
  rectangle: -165,-460 -135,-440
  rectangle: -165,-560 -135,-540
  rectangle: -165,-660 -135,-640
  rectangle: -165,-760 -135,-740
  lines w2: 110,-875 110,875
  lines w10: -50,-845 -50,850 ; -50,850 -100,850 -100,1050 113,1050 ; -50,850 63,850 113,900 113,1050 ; 113,-1050 -100,-1050 -100,-850 50,-850 113,-913 113,-1050 ; 113,-1050 175,-1050 175,-950 400,-950 400,950 175,950 175,1050 113,1050
  text "1" at -30,720 h77.5
  text "a" at -125,795 h77.5
  text "16" at -20,-770 h77.5
  text "b" at -225,795 h77.5
  text "DIN 41612-B/2" at 350,250 h77.5
Mechanical 1:
  lines w0: 110,-1169 110,1169
Mechanical 16:
  rectangle: -135,740 -65,760
  rectangle: -210,740 -165,760
  rectangle: -135,640 -65,660
  rectangle: -210,640 -165,660
  rectangle: -210,540 -165,560
  rectangle: -135,540 -65,560
  rectangle: -135,440 -65,460
  rectangle: -210,440 -165,460
  rectangle: -135,340 -65,360
  rectangle: -135,240 -65,260
  rectangle: -210,340 -165,360
  rectangle: -210,240 -165,260
  rectangle: -210,140 -165,160
  rectangle: -135,140 -65,160
  rectangle: -135,40 -65,60
  rectangle: -210,40 -165,60
  rectangle: -135,-60 -65,-40
  rectangle: -210,-60 -165,-40
  rectangle: -135,-160 -65,-140
  rectangle: -210,-160 -165,-140
  rectangle: -210,-260 -165,-240
  rectangle: -135,-260 -65,-240
  rectangle: -135,-360 -65,-340
  rectangle: -135,-460 -65,-440
  rectangle: -210,-360 -165,-340
  rectangle: -210,-460 -165,-440
  rectangle: -210,-560 -165,-540
  rectangle: -135,-560 -65,-540
  rectangle: -135,-660 -65,-640
  rectangle: -210,-660 -165,-640
  rectangle: -210,-760 -165,-740
  rectangle: -135,-760 -65,-740
Via Holes:
  circle w70: c0,950 r90
  circle w70: c0,-950 r90

## MAB32Q2 [mil]
pads (34):
  round 110 hole 110: 1(38,-984.25) 1(38,984.25)
  oct 48x48 hole 32: A1(50,750) A2(50,650) A3(50,550) A4(50,450) A5(50,350) A6(50,250) A7(50,150) A8(50,50) A9(50,-50) A10(50,-150) A11(50,-250) A12(50,-350) A13(50,-450) A14(50,-550) A15(50,-650) A16(50,-750) B1(-50,750) B2(-50,650) B3(-50,550) B4(-50,450) B5(-50,350) B6(-50,250) B7(-50,150) B8(-50,50) B9(-50,-50) B10(-50,-150) B11(-50,-250) B12(-50,-350) B13(-50,-450) B14(-50,-550) B15(-50,-650) B16(-50,-750)
Bottom Layer keep-out:
  circle w70: c38,-984.25 r90
  circle w70: c38,984.25 r90
Top Overlay:
  circle w10: c38,-984.25 r50
  circle w10: c38,984.25 r50
  lines w10: -50,-920 -50,-875 ; -50,920 -50,875 ; 160,1040 160,950 ; 160.87,1040.12 ccw(c137.99,1036.99) 140,1060 -75,1060 ; -160,-875 -160,875 ; -160,-875 -160,-1040 ccw(c-140,-1040) -140,-1060 -75,-1060 ; -160,-875 -50,-875 ; -160,875 -160,1040 cw(c-140,1040) -140,1060 -75,1060 ; -160,875 -50,875 ; -75,-1060 -75,-950 -15,-875 35,-875 ; -75,-1060 140,-1060 ccw(c140,-1040) 160,-1040 160,-950 ; -75,1060 -75,950 -15,875 35,875 ; -50,-875 -50,-840 -125,-840 -125,840 -50,840 -50,875 ; 35,-875 35,-815 125,-815 125,815 35,815 35,875 ; 35,-875 70,-875 ; 35,875 70,875 ; 70,-875 105,-875 160,-950 ; 70,-875 70,-850 160,-850 ; 70,875 105,875 160,950 ; 70,875 70,850 160,850 ; 160,-950 160,-850 ; 160,-850 160,850 ; 160,-850 160,950 ; 160,850 160,950
  text "1" at 120,750 h49.6
  text "16" at 115,-765 h49.6
  text "a" at -5,780 h77.5
  text "b" at -70,785 h77.5
  text "DIN41612-Q/2" at -175,250 h77.5
Via Holes:
  circle w70: c38,-984.25 r90
  circle w70: c38,984.25 r90

## MAB64 [mil]
pads (66):
  round 110 hole 110: 1(0,-1750) 1(0,1750)
  oct 54x54 hole 36: A1(-100,1550) A2(-100,1450) A3(-100,1350) A4(-100,1250) A5(-100,1150) A6(-100,1050) A7(-100,950) A8(-100,850) A9(-100,750) A10(-100,650) A11(-100,550) A12(-100,450) A13(-100,350) A14(-100,250) A15(-100,150) A16(-100,50) A17(-100,-50) A18(-100,-150) A19(-100,-250) A20(-100,-350) A21(-100,-450) A22(-100,-550) A23(-100,-650) A24(-100,-750) A25(-100,-850) A26(-100,-950) A27(-100,-1050) A28(-100,-1150) A29(-100,-1250) A30(-100,-1350) A31(-100,-1450) A32(-100,-1550) B1(-200,1550) B2(-200,1450) B3(-200,1350) B4(-200,1250) B5(-200,1150) B6(-200,1050) B7(-200,950) B8(-200,850) B9(-200,750) B10(-200,650) B11(-200,550) B12(-200,450) B13(-200,350) B14(-200,250) B15(-200,150) B16(-200,50) B17(-200,-50) B18(-200,-150) B19(-200,-250) B20(-200,-350) B21(-200,-450) B22(-200,-550) B23(-200,-650) B24(-200,-750) B25(-200,-850) B26(-200,-950) B27(-200,-1050) B28(-200,-1150) B29(-200,-1250) B30(-200,-1350) B31(-200,-1450) B32(-200,-1550)
Top Overlay:
  circle w10: c0,1750 r50
  circle w10: c0,-1750 r50
  rectangle: -65,1540 -50,1560
  rectangle: -65,1440 -50,1460
  rectangle: -65,1340 -50,1360
  rectangle: -65,1240 -50,1260
  rectangle: -65,1140 -50,1160
  rectangle: -65,1040 -50,1060
  rectangle: -65,940 -50,960
  rectangle: -65,840 -50,860
  rectangle: -65,740 -50,760
  rectangle: -65,640 -50,660
  rectangle: -65,540 -50,560
  rectangle: -65,440 -50,460
  rectangle: -65,340 -50,360
  rectangle: -65,240 -50,260
  rectangle: -65,140 -50,160
  rectangle: -65,40 -50,60
  rectangle: -65,-60 -50,-40
  rectangle: -65,-160 -50,-140
  rectangle: -65,-260 -50,-240
  rectangle: -65,-360 -50,-340
  rectangle: -65,-460 -50,-440
  rectangle: -65,-560 -50,-540
  rectangle: -65,-660 -50,-640
  rectangle: -65,-760 -50,-740
  rectangle: -65,-860 -50,-840
  rectangle: -65,-960 -50,-940
  rectangle: -65,-1060 -50,-1040
  rectangle: -65,-1160 -50,-1140
  rectangle: -65,-1260 -50,-1240
  rectangle: -65,-1360 -50,-1340
  rectangle: -65,-1460 -50,-1440
  rectangle: -65,-1560 -50,-1540
  rectangle: -165,1540 -135,1560
  rectangle: -165,1440 -135,1460
  rectangle: -165,1340 -135,1360
  rectangle: -165,1240 -135,1260
  rectangle: -165,1140 -135,1160
  rectangle: -165,1040 -135,1060
  rectangle: -165,940 -135,960
  rectangle: -165,840 -135,860
  rectangle: -165,740 -135,760
  rectangle: -165,640 -135,660
  rectangle: -165,540 -135,560
  rectangle: -165,440 -135,460
  rectangle: -165,340 -135,360
  rectangle: -165,240 -135,260
  rectangle: -165,140 -135,160
  rectangle: -165,40 -135,60
  rectangle: -165,-60 -135,-40
  rectangle: -165,-160 -135,-140
  rectangle: -165,-260 -135,-240
  rectangle: -165,-360 -135,-340
  rectangle: -165,-460 -135,-440
  rectangle: -165,-560 -135,-540
  rectangle: -165,-660 -135,-640
  rectangle: -165,-760 -135,-740
  rectangle: -165,-860 -135,-840
  rectangle: -165,-960 -135,-940
  rectangle: -165,-1060 -135,-1040
  rectangle: -165,-1160 -135,-1140
  rectangle: -165,-1260 -135,-1240
  rectangle: -165,-1360 -135,-1340
  rectangle: -165,-1460 -135,-1440
  rectangle: -165,-1560 -135,-1540
  lines w10: -50,-1650 -100,-1650 -100,-1850 113,-1850 ; -50,-1650 50,-1650 113,-1713 113,-1850 ; -50,-1650 -50,-1525 ; -50,-1525 -50,-1425 ; -50,-1525 110,-1525 110,-1425 -50,-1425 ; -50,-1425 -50,-1375 ; -50,-1375 -50,-1225 ; -50,-1375 110,-1375 110,-1225 -50,-1225 ; -50,-1225 -50,-1175 ; -50,-1175 -50,-825 ; -50,-1175 110,-1175 110,-825 -50,-825 ; -50,-825 -50,-775 ; -50,-775 -50,-425 ; -50,-775 110,-775 110,-425 -50,-425 ; -50,-425 -50,-375 ; -50,-375 -50,-25 ; -50,-375 110,-375 110,-25 -50,-25 ; -50,-25 -50,25 ; -50,25 -50,375 ; -50,25 110,25 110,375 -50,375 ; -50,375 -50,425 ; -50,425 -50,775 ; -50,425 110,425 110,775 -50,775 ; -50,775 -50,825 ; -50,825 -50,1175 ; -50,825 110,825 110,1175 -50,1175 ; -50,1175 -50,1225 ; -50,1225 -50,1375 ; -50,1225 110,1225 110,1375 -50,1375 ; -50,1375 -50,1425 ; -50,1425 -50,1525 ; -50,1425 110,1425 110,1525 -50,1525 ; -50,1525 -50,1650 ; -50,1650 -100,1650 -100,1850 113,1850 ; -50,1650 63,1650 113,1700 113,1850 ; 113,-1850 175,-1850 175,-1750 400,-1750 400,1750 175,1750 175,1850 113,1850
  text "A" at -165,1625 h77.5
  text "1" at 0,1550 h77.5
  text "B" at -250,1625 h77.5
  text "32" at 0,-1600 h77.5
  text "DIN 41612 -C" at 300,900 h77.5
Mechanical 1:
  lines w0: 110,-1969 110,1969
Mechanical 16:
  rectangle: -135,1540 -65,1560
  rectangle: -210,1540 -165,1560
  rectangle: -135,1440 -65,1460
  rectangle: -210,1440 -165,1460
  rectangle: -210,1340 -165,1360
  rectangle: -135,1340 -65,1360
  rectangle: -135,1240 -65,1260
  rectangle: -210,1240 -165,1260
  rectangle: -135,1140 -65,1160
  rectangle: -135,1040 -65,1060
  rectangle: -210,1140 -165,1160
  rectangle: -210,1040 -165,1060
  rectangle: -210,940 -165,960
  rectangle: -135,940 -65,960
  rectangle: -135,840 -65,860
  rectangle: -210,840 -165,860
  rectangle: -135,740 -65,760
  rectangle: -210,740 -165,760
  rectangle: -135,640 -65,660
  rectangle: -210,640 -165,660
  rectangle: -210,540 -165,560
  rectangle: -135,540 -65,560
  rectangle: -135,440 -65,460
  rectangle: -135,340 -65,360
  rectangle: -210,440 -165,460
  rectangle: -210,340 -165,360
  rectangle: -210,240 -165,260
  rectangle: -135,240 -65,260
  rectangle: -135,140 -65,160
  rectangle: -210,140 -165,160
  rectangle: -210,40 -165,60
  rectangle: -135,40 -65,60
  rectangle: -135,-60 -65,-40
  rectangle: -210,-60 -165,-40
  rectangle: -135,-160 -65,-140
  rectangle: -210,-160 -165,-140
  rectangle: -135,-260 -65,-240
  rectangle: -210,-260 -165,-240
  rectangle: -210,-360 -165,-340
  rectangle: -135,-360 -65,-340
  rectangle: -135,-460 -65,-440
  rectangle: -210,-460 -165,-440
  rectangle: -135,-660 -65,-640
  rectangle: -210,-660 -165,-640
  rectangle: -135,-560 -65,-540
  rectangle: -210,-560 -165,-540
  rectangle: -135,-760 -65,-740
  rectangle: -210,-760 -165,-740
  rectangle: -210,-860 -165,-840
  rectangle: -135,-860 -65,-840
  rectangle: -135,-960 -65,-940
  rectangle: -210,-960 -165,-940
  rectangle: -135,-1060 -65,-1040
  rectangle: -210,-1060 -165,-1040
  rectangle: -135,-1160 -65,-1140
  rectangle: -210,-1160 -165,-1140
  rectangle: -210,-1260 -165,-1240
  rectangle: -135,-1260 -65,-1240
  rectangle: -135,-1360 -65,-1340
  rectangle: -210,-1360 -165,-1340
  rectangle: -210,-1460 -165,-1440
  rectangle: -135,-1460 -65,-1440
  rectangle: -135,-1560 -65,-1540
  rectangle: -210,-1560 -165,-1540

## MAB64Q [mil]
pads (66):
  round 110 hole 110: 1(38,-1771.65) 1(38,1771.65)
  oct 48x48 hole 32: A1(50,1550) A2(50,1450) A3(50,1350) A4(50,1250) A5(50,1150) A6(50,1050) A7(50,950) A8(50,850) A9(50,750) A10(50,650) A11(50,550) A12(50,450) A13(50,350) A14(50,250) A15(50,150) A16(50,50) A17(50,-50) A18(50,-150) A19(50,-250) A20(50,-350) A21(50,-450) A22(50,-550) A23(50,-650) A24(50,-750) A25(50,-850) A26(50,-950) A27(50,-1050) A28(50,-1150) A29(50,-1250) A30(50,-1350) A31(50,-1450) A32(50,-1550) B1(-50,1550) B2(-50,1450) B3(-50,1350) B4(-50,1250) B5(-50,1150) B6(-50,1050) B7(-50,950) B8(-50,850) B9(-50,750) B10(-50,650) B11(-50,550) B12(-50,450) B13(-50,350) B14(-50,250) B15(-50,150) B16(-50,50) B17(-50,-50) B18(-50,-150) B19(-50,-250) B20(-50,-350) B21(-50,-450) B22(-50,-550) B23(-50,-650) B24(-50,-750) B25(-50,-850) B26(-50,-950) B27(-50,-1050) B28(-50,-1150) B29(-50,-1250) B30(-50,-1350) B31(-50,-1450) B32(-50,-1550)
Bottom Layer keep-out:
  circle w70: c38,-1771.65 r90
  circle w70: c38,1771.65 r90
Top Overlay:
  circle w10: c38,-1771.65 r50
  circle w10: c38,1771.65 r50
  lines w10: -50,-1720 -50,-1675 ; -50,1720 -50,1675 ; 160,1840 160,1750 ; 160.87,1840.12 ccw(c137.99,1836.99) 140,1860 -75,1860 ; -160,-1675 -160,1675 ; -160,-1675 -160,-1840 ccw(c-140,-1840) -140,-1860 -75,-1860 ; -160,-1675 -50,-1675 ; -160,1675 -160,1840 cw(c-140,1840) -140,1860 -75,1860 ; -160,1675 -50,1675 ; -75,-1860 -75,-1750 -15,-1675 35,-1675 ; -75,-1860 140,-1860 ccw(c140,-1840) 160,-1840 160,-1750 ; -75,1860 -75,1750 -15,1675 35,1675 ; -50,-1675 -50,-1640 -125,-1640 -125,1640 -50,1640 -50,1675 ; 35,-1675 35,-1615 125,-1615 125,1615 35,1615 35,1675 ; 35,-1675 70,-1675 ; 35,1675 70,1675 ; 70,-1675 105,-1675 160,-1750 ; 70,-1675 70,-1650 160,-1650 ; 70,1675 105,1675 160,1750 ; 70,1675 70,1650 160,1650 ; 160,-1750 160,-1650 ; 160,-1650 160,1650 ; 160,1650 160,1750
  text "1" at 120,1550 h49.6
  text "a" at -5,1580 h77.5
  text "b" at -70,1585 h77.5
  text "DIN41612-Q" at -175,550 h77.5
  text "32" at 115,-1565 h49.6
Via Holes:
  circle w70: c38,-1771.65 r90
  circle w70: c38,1771.65 r90